# Altium schematic symbol library HW_ADHERENT_SYSCTRL_R1_L3.SchLib: 1629 symbols (part 13 of 31)
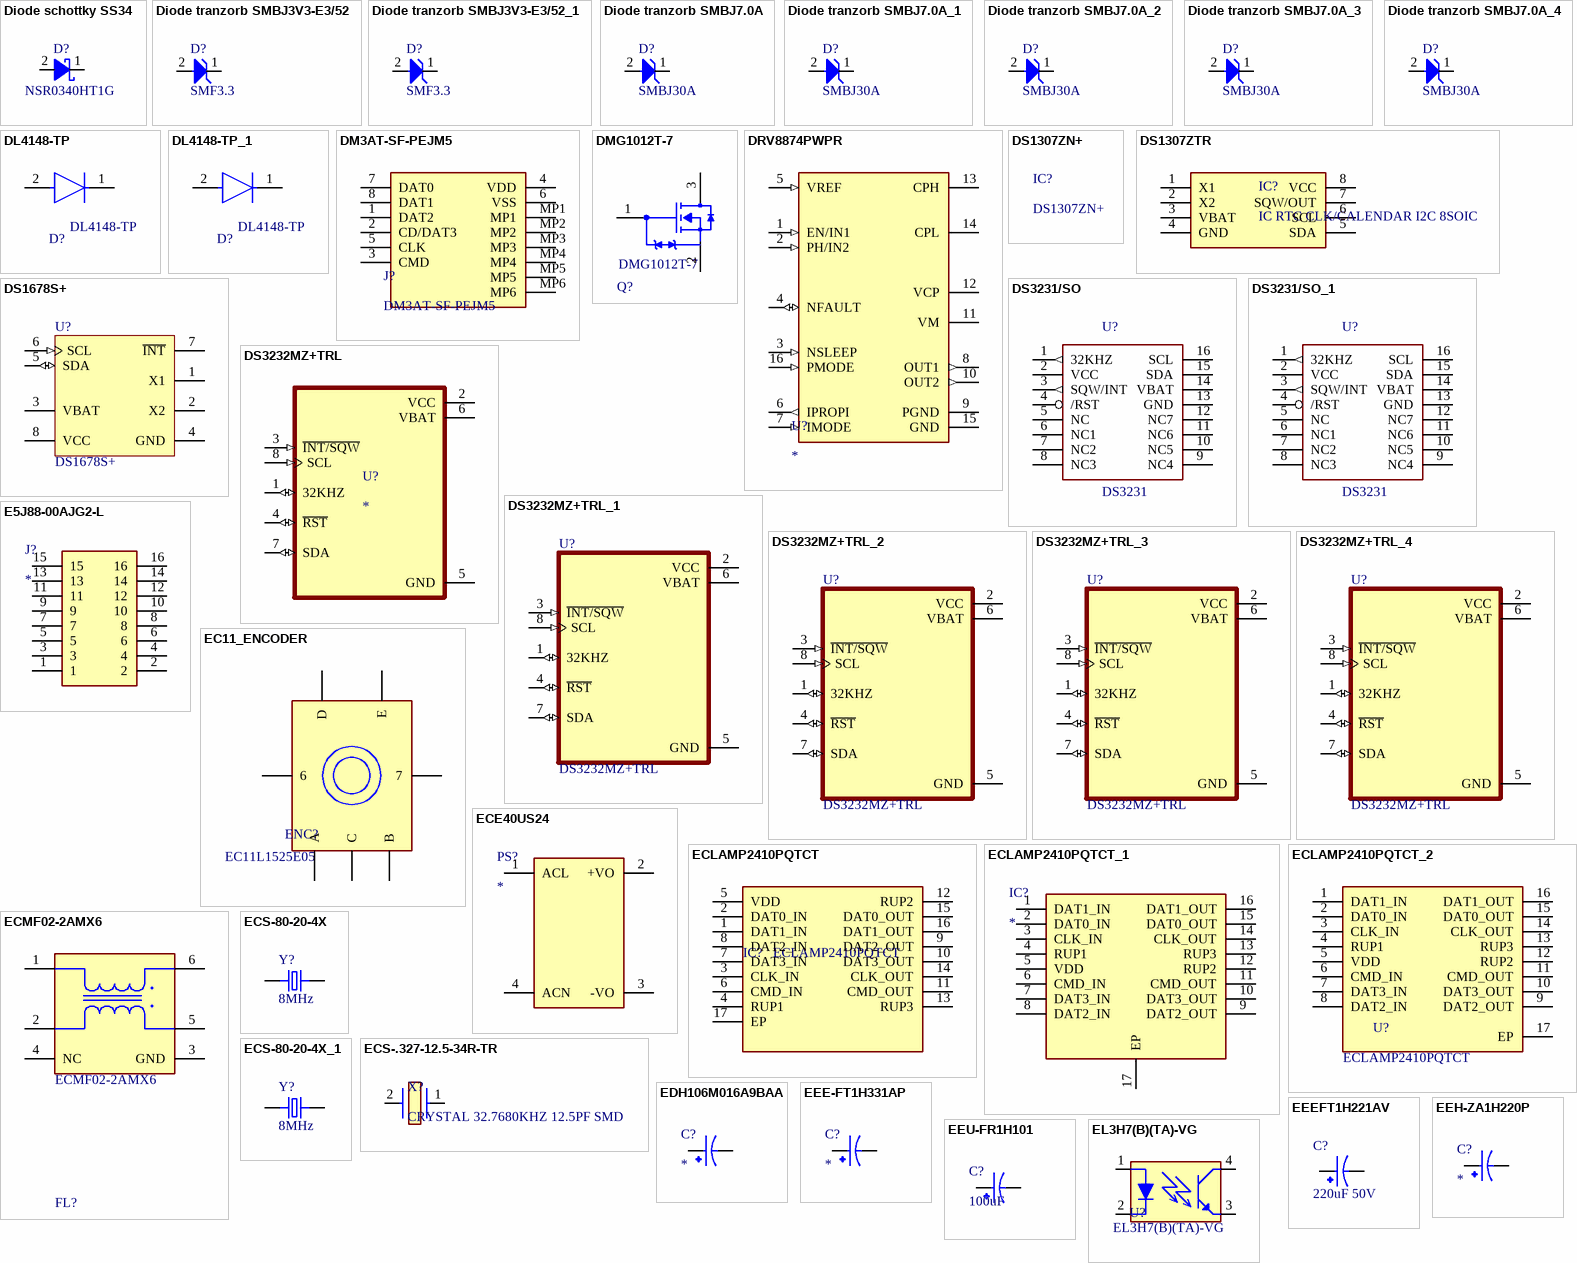
[diagram p63: symbols Diode schottky SS34 to EL3H7(B)(TA)-VG]

## ECS-80-20-4X_1
designator Y?, comment value 8MHz  (hidden comment: CRYSTAL 8.0000MHZ 20PF TH)
8 MHz ±30ppm Crystal 20pF 80 Ohms HC-49/US; Manufacturer Part Number: ECS-80-20-4X; LCSC Manufacturer Part Number: X49SD8MSD2SC; Order Code: Digi: X1094-ND; MF: ECS Inc.; Package: HC49/US ECS International; Digi-Key_Purchase_URL: https://www.digikey.com.tr/product-detail/en/ecs-inc/ECS-80-20-4X/X1094-ND/827585?utm_source=snapeda&utm_medium=aggregator&utm_campaign=symbol; SnapEDA_Link: https://www.snapeda.com/parts/ECS-80-20-4X/ECS%20Inc./view-part/558958/?ref=snap; LCSC Part Number: C21263
footprint XTAL_ECS-80-20-4X
pins: 1, 2

## ECS-.327-12.5-34R-TR
designator X?, comment CRYSTAL 32.7680KHZ 12.5PF SMD
Crystal 0.032768MHz ±20ppm (Tol) 12.5pF Flexural 50000Ohm 2-Pin Mini-CSMD T/R
footprint ECS32712534RRTR
pins: 1 OUT/IN, 2 OUT/IN

## EDH106M016A9BAA
designator C?
10 µF 16 V Aluminum Electrolytic Capacitors Radial, Can - SMD 2000 Hrs @ 105°C; MPN: EDH106M016A9BAA; Manufacturer: KEMET
footprint CAPAE430X565N/K
pins: 1, 2

## EEE-FT1H331AP
designator C?
330 µF 50 V Aluminum Electrolytic Capacitors Radial, Can - SMD 120mOhm @ 100kHz 2000 Hrs @ 105°C; MPN: EEE-FT1H331AP; Manufacturer: Panasonic Industry
footprint CAP_EEEFT1H331AP
pins: 1, 2

## EEEFT1H221AV
designator C?, comment 220uF 50V
220 µF 50 V Aluminum Electrolytic Capacitors Radial, Can - SMD 180mOhm @ 100kHz 2000 Hrs @ 105°C; Manufacturer Part Number: EEE-FT1H221AV; MF: Panasonic Electronic Components; Package: RADIAL-2 Panasonic; Price: None; Availability: In Stock; Value: *; Check_prices: https://www.snapeda.com/parts/EEE-FT1H221AV/Panasonic/view-part/5517810/?ref=eda; SnapEDA_Link: https://www.snapeda.com/parts/EEE-FT1H221AV/Panasonic/view-part/5517810/?ref=snap
footprint CAP_EEEFT1H221AV
pins: 1, 2

## EEH-ZA1H220P
designator C?
22 µF 50 V Aluminum - Polymer Capacitors Radial, Can - SMD 80mOhm 10000 Hrs @ 105°C; MPN: EEH-ZA1H220P; Manufacturer: Panasonic Industry
footprint CAP_EEHZA1H220P
pins: 1, 2

## EEU-FR1H101
designator C?, comment 100uF
100 µF 50 V Aluminum Electrolytic Capacitors Radial, Can 6000 Hrs @ 105°C; Manufacturer Part Number: EEU-FR1H101; Supplier: P14454-ND
footprint CAPPRD350W60D800H1150
pins: N, P

## EL3H7(B)(TA)-VG
designator U?, comment Manufacturer Part Number: EL3H7(B)(TA)-VG  (hidden comment: OPTOISOLATOR 3.75KV TRANS 4-SSOP)
Optoisolator Transistor Output 3750Vrms 1 Channel 4-SSOP; Order Code: DIGI: 1080-1197-2-ND
footprint Everlight_EL3H7_B_TA_-VG_0
pins: 1 A, 2 C, 3 E, 4 C

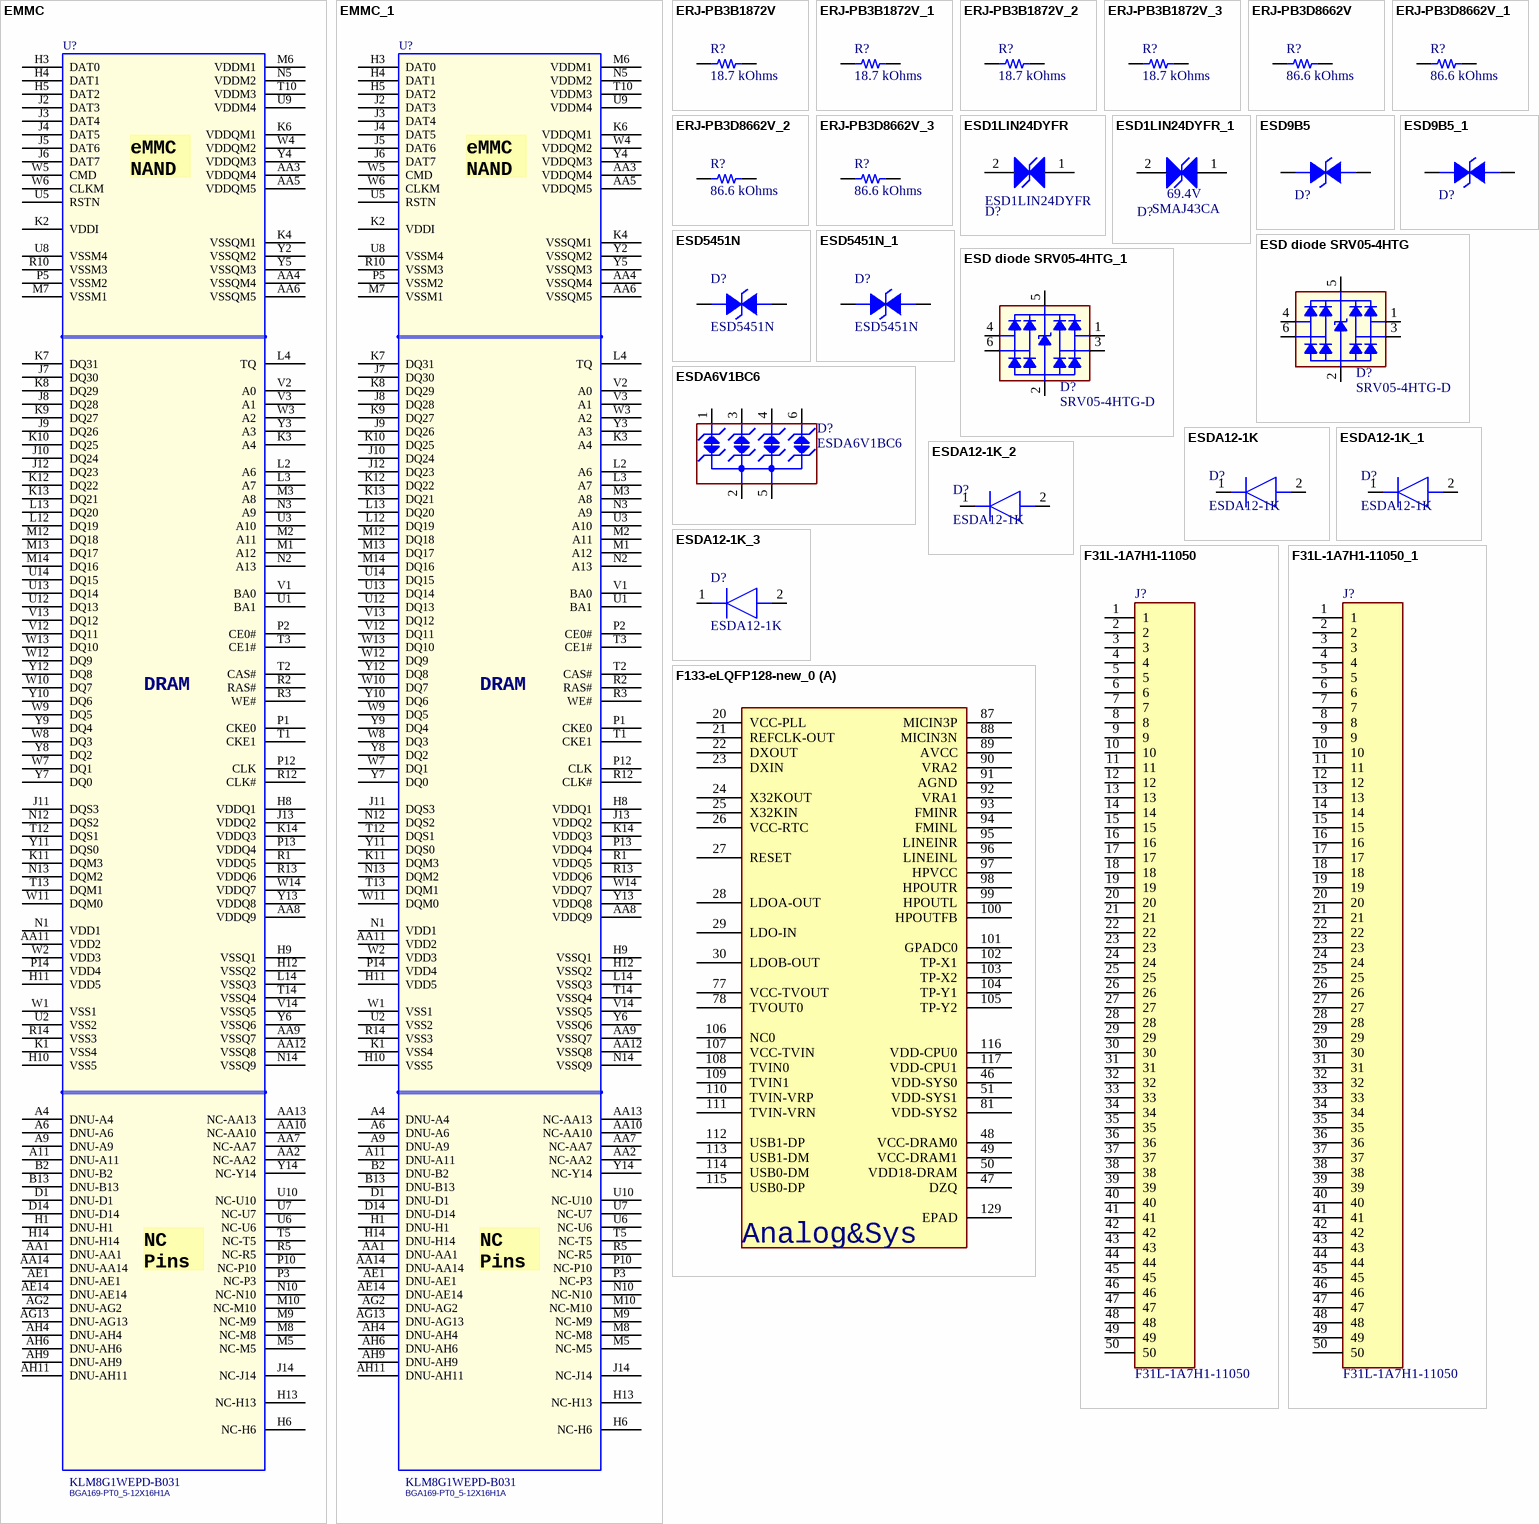
[diagram p21: symbols EMMC to F133-eLQFP128-new_0]

## EMMC
designator U?, comment KLM8G1WEPD-B031  PCB Footprint: BGA169-PT0_5-12X16H1A
Manufacturer Part Number: KLM8G1WEPD-B031
footprint MCP-BGA169
footprint BGA169-PT0_5-12X16H1A
pins: A4 DNU-A4, A6 DNU-A6, A9 DNU-A9, A11 DNU-A11, AA1 DNU-AA1, AA2 NC-AA2, AA3 VDDQM4, AA4 VSSQM4, AA5 VDDQM5, AA6 VSSQM5, AA7 NC-AA7, AA8 VDDQ9, AA9 VSSQ7, AA10 NC-AA10, AA11 VDD2, AA12 VSSQ8, AA13 NC-AA13, AA14 DNU-AA14, AE1 DNU-AE1, AE14 DNU-AE14, AG2 DNU-AG2, AG13 DNU-AG13, AH4 DNU-AH4, AH6 DNU-AH6, AH9 DNU-AH9, AH11 DNU-AH11, B2 DNU-B2, B13 DNU-B13, D1 DNU-D1, D14 DNU-D14, H1 DNU-H1, H3 DAT0, H4 DAT1, H5 DAT2, H6 NC-H6, H8 VDDQ1, H9 VSSQ1, H10 VSS5, H11 VDD5, H12 VSSQ2, H13 NC-H13, H14 DNU-H14, J2 DAT3, J3 DAT4, J4 DAT5, J5 DAT6, J6 DAT7, J7 DQ30, J8 DQ28, J9 DQ26, J10 DQ24, J11 DQS3, J12 DQ23, J13 VDDQ2, J14 NC-J14, K1 VSS4, K2 VDDI, K3 A4, K4 VSSQM1, K6 VDDQM1, K7 DQ31, K8 DQ29, K9 DQ27, K10 DQ25, K11 DQM3, K12 DQ22, K13 DQ21, K14 VDDQ3, L2 A6, L3 A7, L4 TQ, L12 DQ19, L13 DQ20, L14 VSSQ3, M1 A12, M2 A11, M3 A8, M5 NC-M5, M6 VDDM1, M7 VSSM1, M8 NC-M8, M9 NC-M9, M10 NC-M10, M12 DQ18, M13 DQ17, M14 DQ16, N1 VDD1, N2 A13, N3 A9, N5 VDDM2, N10 NC-N10, N12 DQS2, N13 DQM2, N14 VSSQ9, P1 CKE0, P2 CE0#, P3 NC-P3, P5 VSSM2, P10 NC-P10, P12 CLK, P13 VDDQ4, P14 VDD4, R1 VDDQ5, R2 RAS#, R3 WE#, R5 NC-R5, R10 VSSM3, R12 CLK#, R13 VDDQ6, R14 VSS3, T1 CKE1, T2 CAS#, T3 CE1#, T5 NC-T5, T10 VDDM3, T12 DQS1, T13 DQM1, T14 VSSQ4, U1 BA1, U2 VSS2, U3 A10, U5 RSTN, U6 NC-U6, U7 NC-U7, U8 VSSM4, U9 VDDM4, U10 NC-U10, U12 DQ13, U13 DQ14, U14 DQ15, V1 BA0, V2 A0, V3 A1, V12 DQ11, V13 DQ12, V14 VSSQ5, W1 VSS1, W2 VDD3, W3 A2, W4 VDDQM2, W5 CMD, W6 CLKM, W7 DQ1, W8 DQ3, W9 DQ5, W10 DQ7, W11 DQM0, W12 DQ9, W13 DQ10, W14 VDDQ7, Y2 VSSQM2, Y3 A3, Y4 VDDQM3, Y5 VSSQM3, Y6 VSSQ6, Y7 DQ0, Y8 DQ2, Y9 DQ4, Y10 DQ6, Y11 DQS0, Y12 DQ8, Y13 VDDQ8, Y14 NC-Y14
text: eMMC / NAND; DRAM; NC / Pins

## EMMC_1
designator U?, comment KLM8G1WEPD-B031  PCB Footprint: BGA169-PT0_5-12X16H1A
Manufacturer Part Number: KLM8G1WEPD-B031
footprint MCP-BGA169
footprint BGA169-PT0_5-12X16H1A
pins: A4 DNU-A4, A6 DNU-A6, A9 DNU-A9, A11 DNU-A11, AA1 DNU-AA1, AA2 NC-AA2, AA3 VDDQM4, AA4 VSSQM4, AA5 VDDQM5, AA6 VSSQM5, AA7 NC-AA7, AA8 VDDQ9, AA9 VSSQ7, AA10 NC-AA10, AA11 VDD2, AA12 VSSQ8, AA13 NC-AA13, AA14 DNU-AA14, AE1 DNU-AE1, AE14 DNU-AE14, AG2 DNU-AG2, AG13 DNU-AG13, AH4 DNU-AH4, AH6 DNU-AH6, AH9 DNU-AH9, AH11 DNU-AH11, B2 DNU-B2, B13 DNU-B13, D1 DNU-D1, D14 DNU-D14, H1 DNU-H1, H3 DAT0, H4 DAT1, H5 DAT2, H6 NC-H6, H8 VDDQ1, H9 VSSQ1, H10 VSS5, H11 VDD5, H12 VSSQ2, H13 NC-H13, H14 DNU-H14, J2 DAT3, J3 DAT4, J4 DAT5, J5 DAT6, J6 DAT7, J7 DQ30, J8 DQ28, J9 DQ26, J10 DQ24, J11 DQS3, J12 DQ23, J13 VDDQ2, J14 NC-J14, K1 VSS4, K2 VDDI, K3 A4, K4 VSSQM1, K6 VDDQM1, K7 DQ31, K8 DQ29, K9 DQ27, K10 DQ25, K11 DQM3, K12 DQ22, K13 DQ21, K14 VDDQ3, L2 A6, L3 A7, L4 TQ, L12 DQ19, L13 DQ20, L14 VSSQ3, M1 A12, M2 A11, M3 A8, M5 NC-M5, M6 VDDM1, M7 VSSM1, M8 NC-M8, M9 NC-M9, M10 NC-M10, M12 DQ18, M13 DQ17, M14 DQ16, N1 VDD1, N2 A13, N3 A9, N5 VDDM2, N10 NC-N10, N12 DQS2, N13 DQM2, N14 VSSQ9, P1 CKE0, P2 CE0#, P3 NC-P3, P5 VSSM2, P10 NC-P10, P12 CLK, P13 VDDQ4, P14 VDD4, R1 VDDQ5, R2 RAS#, R3 WE#, R5 NC-R5, R10 VSSM3, R12 CLK#, R13 VDDQ6, R14 VSS3, T1 CKE1, T2 CAS#, T3 CE1#, T5 NC-T5, T10 VDDM3, T12 DQS1, T13 DQM1, T14 VSSQ4, U1 BA1, U2 VSS2, U3 A10, U5 RSTN, U6 NC-U6, U7 NC-U7, U8 VSSM4, U9 VDDM4, U10 NC-U10, U12 DQ13, U13 DQ14, U14 DQ15, V1 BA0, V2 A0, V3 A1, V12 DQ11, V13 DQ12, V14 VSSQ5, W1 VSS1, W2 VDD3, W3 A2, W4 VDDQM2, W5 CMD, W6 CLKM, W7 DQ1, W8 DQ3, W9 DQ5, W10 DQ7, W11 DQM0, W12 DQ9, W13 DQ10, W14 VDDQ7, Y2 VSSQM2, Y3 A3, Y4 VDDQM3, Y5 VSSQM3, Y6 VSSQ6, Y7 DQ0, Y8 DQ2, Y9 DQ4, Y10 DQ6, Y11 DQS0, Y12 DQ8, Y13 VDDQ8, Y14 NC-Y14
text: eMMC / NAND; DRAM; NC / Pins

## ERJ-PB3B1872V
designator R?, comment 18.7 kOhms
RES SMD 18.7K OHM 0.1% 1/5W 0603; Part Number: ERJ-PB3B1872V; Manufacturer: Panasonic Electronic Components; Power (Watts): 0.2W, 1/5W; Temperature Coefficient: ±50ppm/°C; ComponentLink1Description: Datasheet; ComponentLink1URL: https://industrial.panasonic.com/cdbs/www-data/pdf/RDM0000/AOA0000C328.pdf; ComponentLink2Description: DigiKey Link; ComponentLink2URL: https://www.digikey.com/en/products/detail/panasonic-electronic-components/ERJ-PB3B1872V/6212898; Composition: Thick Film; Device Package: 0603 (1608 Metric); Features: Automotive AEC-Q200, Pulse Withstanding; Height - Seated (Max): 0.022" (0.55mm); LastUpdated: 2/9/2024 8:43:19 PM; Lifecycle Status: Active; Minimum Order: 1; Number of Terminations: 2; Operating Temperature: -55°C ~ 155°C; Package / Case: 0603 (1608 Metric); Packaging: TapeAndReel; PartId: 9213; Part Status: Active; Price: 0.02; Ratings: AEC-Q200; Resistance: 18.7 kOhms; Series: ERJ-PB3; Size / Dimension: 0.063" L x 0.031" W (1.60mm x 0.80mm); Supplier 1: DigiKey; Supplier Part Number 1: P20115CT-ND; Supplier Device Package: 0603; Tolerance: ±0.1%; Value: 18.7 kOhms
footprint RES 0603_1608
pins: 1, 2

## ERJ-PB3B1872V_1
designator R?, comment 18.7 kOhms
RES SMD 18.7K OHM 0.1% 1/5W 0603; Part Number: ERJ-PB3B1872V; Manufacturer: Panasonic Electronic Components; Power (Watts): 0.2W, 1/5W; Temperature Coefficient: ±50ppm/°C; ComponentLink1Description: Datasheet; ComponentLink1URL: https://industrial.panasonic.com/cdbs/www-data/pdf/RDM0000/AOA0000C328.pdf; ComponentLink2Description: DigiKey Link; ComponentLink2URL: https://www.digikey.com/en/products/detail/panasonic-electronic-components/ERJ-PB3B1872V/6212898; Composition: Thick Film; Device Package: 0603 (1608 Metric); Features: Automotive AEC-Q200, Pulse Withstanding; Height - Seated (Max): 0.022" (0.55mm); LastUpdated: 2/9/2024 8:43:19 PM; Lifecycle Status: Active; Minimum Order: 1; Number of Terminations: 2; Operating Temperature: -55°C ~ 155°C; Package / Case: 0603 (1608 Metric); Packaging: TapeAndReel; PartId: 9213; Part Status: Active; Price: 0.02; Ratings: AEC-Q200; Resistance: 18.7 kOhms; Series: ERJ-PB3; Size / Dimension: 0.063" L x 0.031" W (1.60mm x 0.80mm); Supplier 1: DigiKey; Supplier Part Number 1: P20115CT-ND; Supplier Device Package: 0603; Tolerance: ±0.1%; Value: 18.7 kOhms
footprint RES 0603_1608
pins: 1, 2

## ERJ-PB3B1872V_2
designator R?, comment 18.7 kOhms
RES SMD 18.7K OHM 0.1% 1/5W 0603; Part Number: ERJ-PB3B1872V; Manufacturer: Panasonic Electronic Components; Power (Watts): 0.2W, 1/5W; Temperature Coefficient: ±50ppm/°C; ComponentLink1Description: Datasheet; ComponentLink1URL: https://industrial.panasonic.com/cdbs/www-data/pdf/RDM0000/AOA0000C328.pdf; ComponentLink2Description: DigiKey Link; ComponentLink2URL: https://www.digikey.com/en/products/detail/panasonic-electronic-components/ERJ-PB3B1872V/6212898; Composition: Thick Film; Device Package: 0603 (1608 Metric); Features: Automotive AEC-Q200, Pulse Withstanding; Height - Seated (Max): 0.022" (0.55mm); LastUpdated: 2/9/2024 8:43:19 PM; Lifecycle Status: Active; Minimum Order: 1; Number of Terminations: 2; Operating Temperature: -55°C ~ 155°C; Package / Case: 0603 (1608 Metric); Packaging: TapeAndReel; PartId: 9213; Part Status: Active; Price: 0.02; Ratings: AEC-Q200; Resistance: 18.7 kOhms; Series: ERJ-PB3; Size / Dimension: 0.063" L x 0.031" W (1.60mm x 0.80mm); Supplier 1: DigiKey; Supplier Part Number 1: P20115CT-ND; Supplier Device Package: 0603; Tolerance: ±0.1%; Value: 18.7 kOhms
footprint RES 0603_1608
pins: 1, 2

## ERJ-PB3B1872V_3
designator R?, comment 18.7 kOhms
RES SMD 18.7K OHM 0.1% 1/5W 0603; Part Number: ERJ-PB3B1872V; Manufacturer: Panasonic Electronic Components; Power (Watts): 0.2W, 1/5W; Temperature Coefficient: ±50ppm/°C; ComponentLink1Description: Datasheet; ComponentLink1URL: https://industrial.panasonic.com/cdbs/www-data/pdf/RDM0000/AOA0000C328.pdf; ComponentLink2Description: DigiKey Link; ComponentLink2URL: https://www.digikey.com/en/products/detail/panasonic-electronic-components/ERJ-PB3B1872V/6212898; Composition: Thick Film; Device Package: 0603 (1608 Metric); Features: Automotive AEC-Q200, Pulse Withstanding; Height - Seated (Max): 0.022" (0.55mm); LastUpdated: 2/9/2024 8:43:19 PM; Lifecycle Status: Active; Minimum Order: 1; Number of Terminations: 2; Operating Temperature: -55°C ~ 155°C; Package / Case: 0603 (1608 Metric); Packaging: TapeAndReel; PartId: 9213; Part Status: Active; Price: 0.02; Ratings: AEC-Q200; Resistance: 18.7 kOhms; Series: ERJ-PB3; Size / Dimension: 0.063" L x 0.031" W (1.60mm x 0.80mm); Supplier 1: DigiKey; Supplier Part Number 1: P20115CT-ND; Supplier Device Package: 0603; Tolerance: ±0.1%; Value: 18.7 kOhms
footprint RES 0603_1608
pins: 1, 2

## ERJ-PB3D8662V
designator R?, comment 86.6 kOhms
RES SMD 86.6K OHM 0.5% 1/5W 0603; Part Number: ERJ-PB3D8662V; Manufacturer: Panasonic Electronic Components; Power (Watts): 0.2W, 1/5W; Temperature Coefficient: ±50ppm/°C; ComponentLink1Description: Datasheet; ComponentLink1URL: https://industrial.panasonic.com/cdbs/www-data/pdf/RDM0000/AOA0000C328.pdf; ComponentLink2Description: DigiKey Link; ComponentLink2URL: https://www.digikey.com/en/products/detail/panasonic-electronic-components/ERJ-PB3D8662V/6213287; Composition: Thick Film; Device Package: 0603 (1608 Metric); Features: Automotive AEC-Q200, Pulse Withstanding; Height - Seated (Max): 0.022" (0.55mm); LastUpdated: 2/9/2024 8:43:36 PM; Lifecycle Status: Active; Minimum Order: 1; Number of Terminations: 2; Operating Temperature: -55°C ~ 155°C; Package / Case: 0603 (1608 Metric); Packaging: TapeAndReel; PartId: 5080; Part Status: Active; Price: 0.02; Ratings: AEC-Q200; Resistance: 86.6 kOhms; Series: ERJ-PB3; Size / Dimension: 0.063" L x 0.031" W (1.60mm x 0.80mm); Supplier 1: DigiKey; Supplier Part Number 1: P20504CT-ND; Supplier Device Package: 0603; Tolerance: ±0.5%; Value: 86.6 kOhms
footprint RES 0603_1608
pins: 1, 2

## ERJ-PB3D8662V_1
designator R?, comment 86.6 kOhms
RES SMD 86.6K OHM 0.5% 1/5W 0603; Part Number: ERJ-PB3D8662V; Manufacturer: Panasonic Electronic Components; Power (Watts): 0.2W, 1/5W; Temperature Coefficient: ±50ppm/°C; Value: 86.6 kOhms; ComponentLink1Description: Datasheet; ComponentLink1URL: https://industrial.panasonic.com/cdbs/www-data/pdf/RDM0000/AOA0000C328.pdf; ComponentLink2Description: DigiKey Link; ComponentLink2URL: https://www.digikey.com/en/products/detail/panasonic-electronic-components/ERJ-PB3D8662V/6213287; Composition: Thick Film; Device Package: 0603 (1608 Metric); Features: Automotive AEC-Q200, Pulse Withstanding; Height - Seated (Max): 0.022" (0.55mm); LastUpdated: 2/9/2024 8:43:36 PM; Lifecycle Status: Active; Minimum Order: 1; Number of Terminations: 2; Operating Temperature: -55°C ~ 155°C; Package / Case: 0603 (1608 Metric); Packaging: TapeAndReel; PartId: 5080; Part Status: Active; Price: 0.02; Ratings: AEC-Q200; Resistance: 86.6 kOhms; Series: ERJ-PB3; Size / Dimension: 0.063" L x 0.031" W (1.60mm x 0.80mm); Supplier 1: DigiKey; Supplier Part Number 1: P20504CT-ND; Supplier Device Package: 0603; Tolerance: ±0.5%
footprint RES 0603_1608
pins: 1, 2

## ERJ-PB3D8662V_2
designator R?, comment 86.6 kOhms
RES SMD 86.6K OHM 0.5% 1/5W 0603; Part Number: ERJ-PB3D8662V; Manufacturer: Panasonic Electronic Components; Power (Watts): 0.2W, 1/5W; Temperature Coefficient: ±50ppm/°C; ComponentLink1Description: Datasheet; ComponentLink1URL: https://industrial.panasonic.com/cdbs/www-data/pdf/RDM0000/AOA0000C328.pdf; ComponentLink2Description: DigiKey Link; ComponentLink2URL: https://www.digikey.com/en/products/detail/panasonic-electronic-components/ERJ-PB3D8662V/6213287; Composition: Thick Film; Device Package: 0603 (1608 Metric); Features: Automotive AEC-Q200, Pulse Withstanding; Height - Seated (Max): 0.022" (0.55mm); LastUpdated: 2/9/2024 8:43:36 PM; Lifecycle Status: Active; Minimum Order: 1; Number of Terminations: 2; Operating Temperature: -55°C ~ 155°C; Package / Case: 0603 (1608 Metric); Packaging: TapeAndReel; PartId: 5080; Part Status: Active; Price: 0.02; Ratings: AEC-Q200; Resistance: 86.6 kOhms; Series: ERJ-PB3; Size / Dimension: 0.063" L x 0.031" W (1.60mm x 0.80mm); Supplier 1: DigiKey; Supplier Part Number 1: P20504CT-ND; Supplier Device Package: 0603; Tolerance: ±0.5%; Value: 86.6 kOhms
footprint RES 0603_1608
pins: 1, 2

## ERJ-PB3D8662V_3
designator R?, comment 86.6 kOhms
RES SMD 86.6K OHM 0.5% 1/5W 0603; Part Number: ERJ-PB3D8662V; Manufacturer: Panasonic Electronic Components; Power (Watts): 0.2W, 1/5W; Temperature Coefficient: ±50ppm/°C; ComponentLink1Description: Datasheet; ComponentLink1URL: https://industrial.panasonic.com/cdbs/www-data/pdf/RDM0000/AOA0000C328.pdf; ComponentLink2Description: DigiKey Link; ComponentLink2URL: https://www.digikey.com/en/products/detail/panasonic-electronic-components/ERJ-PB3D8662V/6213287; Composition: Thick Film; Device Package: 0603 (1608 Metric); Features: Automotive AEC-Q200, Pulse Withstanding; Height - Seated (Max): 0.022" (0.55mm); LastUpdated: 2/9/2024 8:43:36 PM; Lifecycle Status: Active; Minimum Order: 1; Number of Terminations: 2; Operating Temperature: -55°C ~ 155°C; Package / Case: 0603 (1608 Metric); Packaging: TapeAndReel; PartId: 5080; Part Status: Active; Price: 0.02; Ratings: AEC-Q200; Resistance: 86.6 kOhms; Series: ERJ-PB3; Size / Dimension: 0.063" L x 0.031" W (1.60mm x 0.80mm); Supplier 1: DigiKey; Supplier Part Number 1: P20504CT-ND; Supplier Device Package: 0603; Tolerance: ±0.5%; Value: 86.6 kOhms
footprint RES 0603_1608
pins: 1, 2

## ESD1LIN24DYFR
designator D?, comment Manufacturer Part Number: ESD1LIN24DYFR  (hidden comment: 3-PF 24-V 30-KV ESD PROTECTION D)
42V Clamp 4.3A (8/20µs) Ipp Tvs Diode Surface Mount SOD-323; Order Code: DIGI: 296-ESD1LIN24DYFRTR-ND
footprint Texas_Instruments_SOD323_IPC_A
footprint Texas_Instruments_SOD323_IPC_B
footprint Texas_Instruments_SOD323_IPC_C
footprint Texas_Instruments_SOD323_MFG
pins: 1 IO, 2 GND

## ESD1LIN24DYFR_1
designator D?, comment Clamp Voltage: 69.4V  Manufacturer Part Number: SMAJ43CA  (hidden comment: TVS DIODE 43VWM 69.4VC DO214AC)
69.4V Clamp 5.8A Ipp Tvs Diode Surface Mount DO-214AC; Order Code: DIGI: 732-SMAJ43CATR-ND
footprint Diodes_SMA_0
pins: 1 IO, 2 GND

## ESD9B5
designator D?, comment TVS DIODE 5VWM SOD923  (value not drawn)
Clamp Ipp Tvs Diode Surface Mount SOD-923; LCSC Manufacturer Part Number: ESD9B5VD; LCSC Part Number: C2835422
footprint On_Semiconductor_514AB-CA_MFG
pins: 1 ANODE, 2 CATHODE

## ESD9B5_1
designator D?, comment TVS DIODE 5VWM SOD923  (value not drawn)
Clamp Ipp Tvs Diode Surface Mount SOD-923; LCSC Manufacturer Part Number: ESD9B5VD; LCSC Part Number: C2835422
footprint On_Semiconductor_514AB-CA_MFG
pins: 1 ANODE, 2 CATHODE

## ESD5451N
designator D?, comment LCSC Manufacturer Part Number: ESD5451N  (hidden comment: DFN1006(SOD-882) ESD Protection Devices ROHS)
Order Code: LCSC: C2936977; LCSC Part Number: C2936977; Manufacturer Part Number: ESD5451N
footprint On_Semiconductor_514AB-CA_MFG
pins: 1 ANODE, 2 CATHODE

## ESD5451N_1
designator D?, comment LCSC Manufacturer Part Number: ESD5451N  (hidden comment: DFN1006(SOD-882) ESD Protection Devices ROHS)
Order Code: LCSC: C2936977; LCSC Part Number: C2936977; Manufacturer Part Number: ESD5451N
footprint On_Semiconductor_514AB-CA_MFG
pins: 1 ANODE, 2 CATHODE

## ESD diode SRV05-4HTG
designator D?, comment SRV05-4HTG-D
TVS DIODE 6VWM 15VC SOT23-6; Manufacturer: Littelfuse Inc.; Value: SRV05-4HTG-D; Manufacturer Part Number: SRV05-4HTG-D; Supplier Part Number: SRV05-4HTG-DCT-ND
footprint SOT23-6 (Footprint not found)
pins: 1 IO1, 2 GND (power), 3 IO2, 4 IO3, 5 VCC (power), 6 IO4

## ESD diode SRV05-4HTG_1
designator D?, comment SRV05-4HTG-D
TVS DIODE 6VWM 15VC SOT23-6; Manufacturer: Littelfuse Inc.; Manufacturer Part Number: SRV05-4HTG-D; Supplier Part Number: SRV05-4HTG-DCT-ND; Value: SRV05-4HTG-D
footprint SOT23-6 (Footprint not found)
pins: 1 IO1, 2 GND (power), 3 IO2, 4 IO3, 5 VCC (power), 6 IO4

## ESDA6V1BC6
designator D?
ESD Suppressor TVS 15KV 6-Pin SOT-23 T/R; Manufacturer: STMicroelectronics; Direction: Bidirectional; Capacitance: 20pF; Reverse Breakdown Voltage: 6.1V; Number of Elements: 4; Operating Supply Voltage: 5V; Peak Pulse Power: 80W; Max Breakdown Voltage: 8V; Leakage Current: 1uA; Test Current: 1mA; Power Line Protection: No; Clamping Voltage: 11.35V; Diode Type: ZENER; ESD Protection: Yes; Supplier 1: Digi-Key; Supplier Part Number 1: 497-6635-1-ND; Manufacturer Part Number: ESDA6V1BC6; RoHS: Yes; Category: Integrated Circuits (ICs); Stock 1: 11313; Pricing 1: 1=0,41000, 10=0,33400, 100=0,22730, 500=0,17044, 1000=0,12784 (USD); Mount: Surface Mount; Case/Package: SOT-23; Number of Pins: 6; Min Operating Temperature: -40°C; Max Operating Temperature: 125°C; Package Quantity: 1; Packaging: Tape and Reel; Reverse Standoff Voltage: 5V; Polarity: Bidirectional; Breakdown Voltage: 6.1V; Termination: SMD/SMT; Max Power Dissipation: 80W; Series: ESDA, TRANSIL™; Number of Channels: 4; Number of Bidirectional Channels: 4; Min Breakdown Voltage: 6.1V; Working Voltage: 5V; Max Reverse Leakage Current: 1uA; Voltage Rating (DC): 6.1V; Resistor Type: Zener; Length: 3.05mm; Width: 1.75mm; Height: 1.45mm; Depth: 1.75mm; Radiation Hardening: No; Lead Free: Lead Free; RoHS Compliant: Yes; REACH SVHC: No SVHC; ComponentLink1URL: https://datasheet.ciiva.com/15143/getdatasheetpartid-148472-15143793.pdf?src-supplier=Verical; ComponentLink1Description: https://datasheet.ciiva.com/15143/getdatasheetpartid-148472-15143793.pdf?src-supplier=Verical; ComponentLink2URL: https://datasheet.ciiva.com/4507/cd00001906-94538-4507893.pdf?src-supplier=Mouser; ComponentLink2Description: https://datasheet.ciiva.com/4507/cd00001906-94538-4507893.pdf?src-supplier=Mouser; ComponentLink3URL: https://datasheet.ciiva.com/14186/esda6v1bc6-st-eng-tds-14186554.pdf?src-supplier=Distrelec; ComponentLink3Description: https://datasheet.ciiva.com/14186/esda6v1bc6-st-eng-tds-14186554.pdf?src-supplier=Distrelec; ComponentLink4URL: https://datasheet.ciiva.com/338/cd00001906-338704.pdf?src-supplier=Digi-Key; ComponentLink4Description: https://datasheet.ciiva.com/338/cd00001906-338704.pdf?src-supplier=Digi-Key; ComponentLink5URL: https://datasheet.ciiva.com/338/cd00001906-338705.pdf?src-supplier=Digi-Key; ComponentLink5Description: https://datasheet.ciiva.com/338/cd00001906-338705.pdf?src-supplier=Digi-Key; ComponentLink6URL: https://datasheet.ciiva.com/11194/cd00001906-11194053.pdf?src-supplier=Avnet; ComponentLink6Description: https://datasheet.ciiva.com/11194/cd00001906-11194053.pdf?src-supplier=Avnet; ComponentLink7URL: https://datasheet.ciiva.com/7662/1671767-7662124.pdf?src-supplier=Element14; ComponentLink7Description: https://datasheet.ciiva.com/7662/1671767-7662124.pdf?src-supplier=Element14
footprint SOT23-6L
footprint uQFN (Footprint not found)
pins: 1 IO1, 2 IO2, 3 GND, 4 IO3, 5 IO4, 6 NC

## ESDA12-1K
designator D?
Manufacturer_Name: STMicroelectronics; Datasheet Link: https://www.st.com/resource/en/datasheet/esda-1k.pdf; Height: 0.7mm; Manufacturer_Part_Number: ESDA12-1K; Mouser Part Number: 511-ESDA12-1K; Mouser Price/Stock: https://www.mouser.co.uk/ProductDetail/STMicroelectronics/ESDA12-1K?qs=raAh8RbVwI6OxdPIyEiuSA%3D%3D; Arrow Part Number: ESDA12-1K; Arrow Price/Stock: https://www.arrow.com/en/products/esda12-1k/stmicroelectronics?region=europe
footprint SODFL1608X70N
pins: 1 K, 2 A

## ESDA12-1K_1
designator D?, comment ESDA12-1K
Manufacturer_Name: STMicroelectronics; Datasheet Link: https://www.st.com/resource/en/datasheet/esda-1k.pdf; Height: 0.7mm; Manufacturer_Part_Number: ESDA12-1K; Mouser Part Number: 511-ESDA12-1K; Mouser Price/Stock: https://www.mouser.co.uk/ProductDetail/STMicroelectronics/ESDA12-1K?qs=raAh8RbVwI6OxdPIyEiuSA%3D%3D; Arrow Part Number: ESDA12-1K; Arrow Price/Stock: https://www.arrow.com/en/products/esda12-1k/stmicroelectronics?region=europe
footprint SODFL1608X70N
pins: 1 K, 2 A

## ESDA12-1K_2
designator D?, comment ESDA12-1K
Manufacturer_Name: STMicroelectronics; Datasheet Link: https://www.st.com/resource/en/datasheet/esda-1k.pdf; Height: 0.7mm; Manufacturer_Part_Number: ESDA12-1K; Mouser Part Number: 511-ESDA12-1K; Mouser Price/Stock: https://www.mouser.co.uk/ProductDetail/STMicroelectronics/ESDA12-1K?qs=raAh8RbVwI6OxdPIyEiuSA%3D%3D; Arrow Part Number: ESDA12-1K; Arrow Price/Stock: https://www.arrow.com/en/products/esda12-1k/stmicroelectronics?region=europe
footprint SODFL1608X70N
pins: 1 K, 2 A

## ESDA12-1K_3
designator D?, comment ESDA12-1K
Manufacturer_Name: STMicroelectronics; Datasheet Link: https://www.st.com/resource/en/datasheet/esda-1k.pdf; Height: 0.7mm; Manufacturer_Part_Number: ESDA12-1K; Mouser Part Number: 511-ESDA12-1K; Mouser Price/Stock: https://www.mouser.co.uk/ProductDetail/STMicroelectronics/ESDA12-1K?qs=raAh8RbVwI6OxdPIyEiuSA%3D%3D; Arrow Part Number: ESDA12-1K; Arrow Price/Stock: https://www.arrow.com/en/products/esda12-1k/stmicroelectronics?region=europe
footprint SODFL1608X70N
pins: 1 K, 2 A

## F31L-1A7H1-11050
designator J?
MF: Amphenol ICC (FCI); Package: None; Price: None; Value: *; MP: F31L-1A7H1-11050; Availability: Unavailable
footprint AMPHENOL_F31L-1A7H1-11050
pins: 1, 2, 3, 4, 5, 6, 7, 8, 9, 10, 11, 12, 13, 14, 15, 16, 17, 18, 19, 20, 21, 22, 23, 24, 25, 26, 27, 28, 29, 30, 31, 32, 33, 34, 35, 36, 37, 38, 39, 40, 41, 42, 43, 44, 45, 46, 47, 48, 49, 50

## F31L-1A7H1-11050_1
designator J?, comment F31L-1A7H1-11050
MF: Amphenol ICC (FCI); Package: None; Price: None; Value: *; MP: F31L-1A7H1-11050; Availability: Unavailable
footprint AMPHENOL_F31L-1A7H1-11050
pins: 1, 2, 3, 4, 5, 6, 7, 8, 9, 10, 11, 12, 13, 14, 15, 16, 17, 18, 19, 20, 21, 22, 23, 24, 25, 26, 27, 28, 29, 30, 31, 32, 33, 34, 35, 36, 37, 38, 39, 40, 41, 42, 43, 44, 45, 46, 47, 48, 49, 50

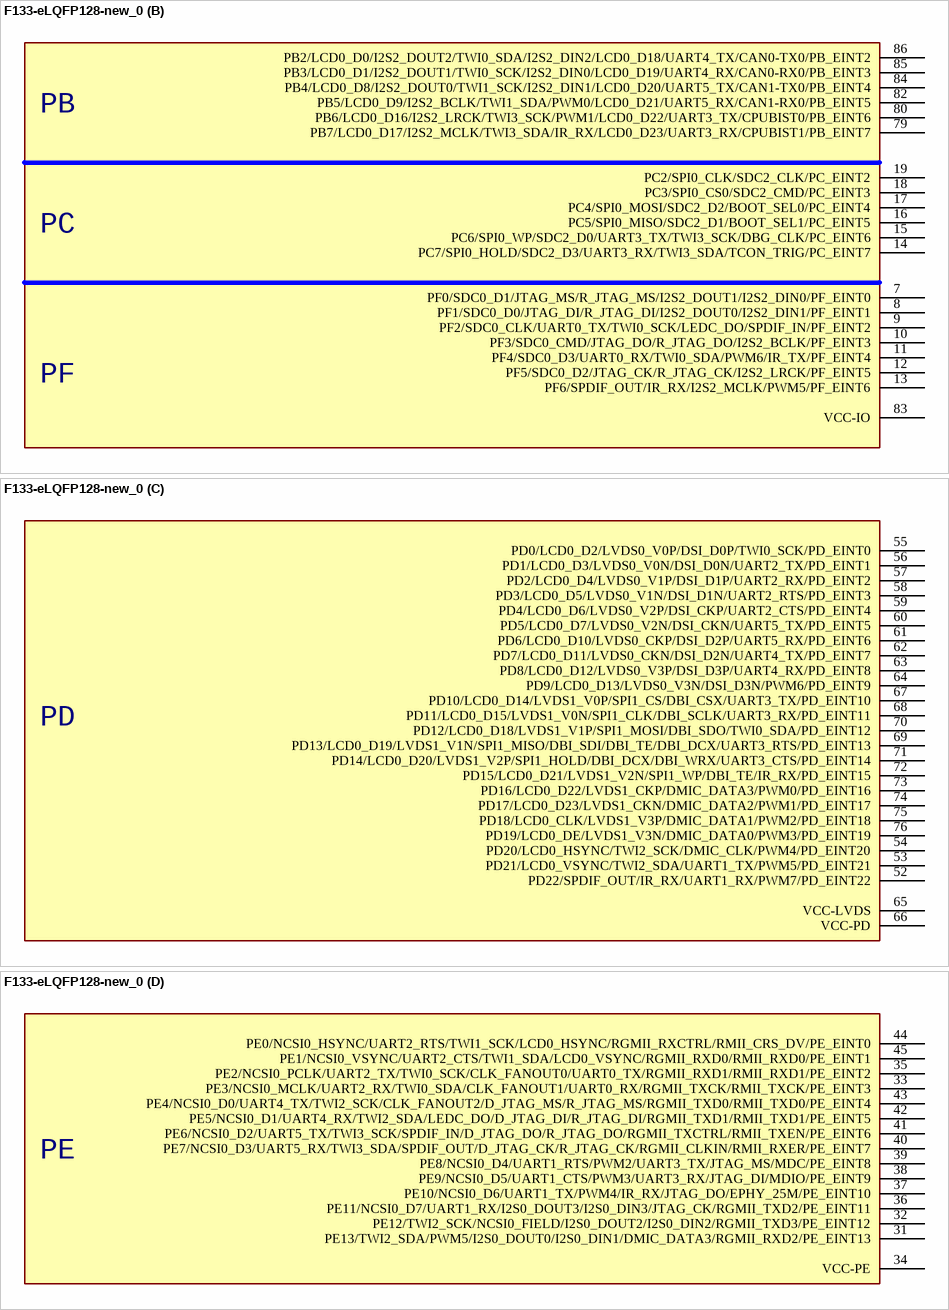
[diagram p22: symbol F133-eLQFP128-new_0]

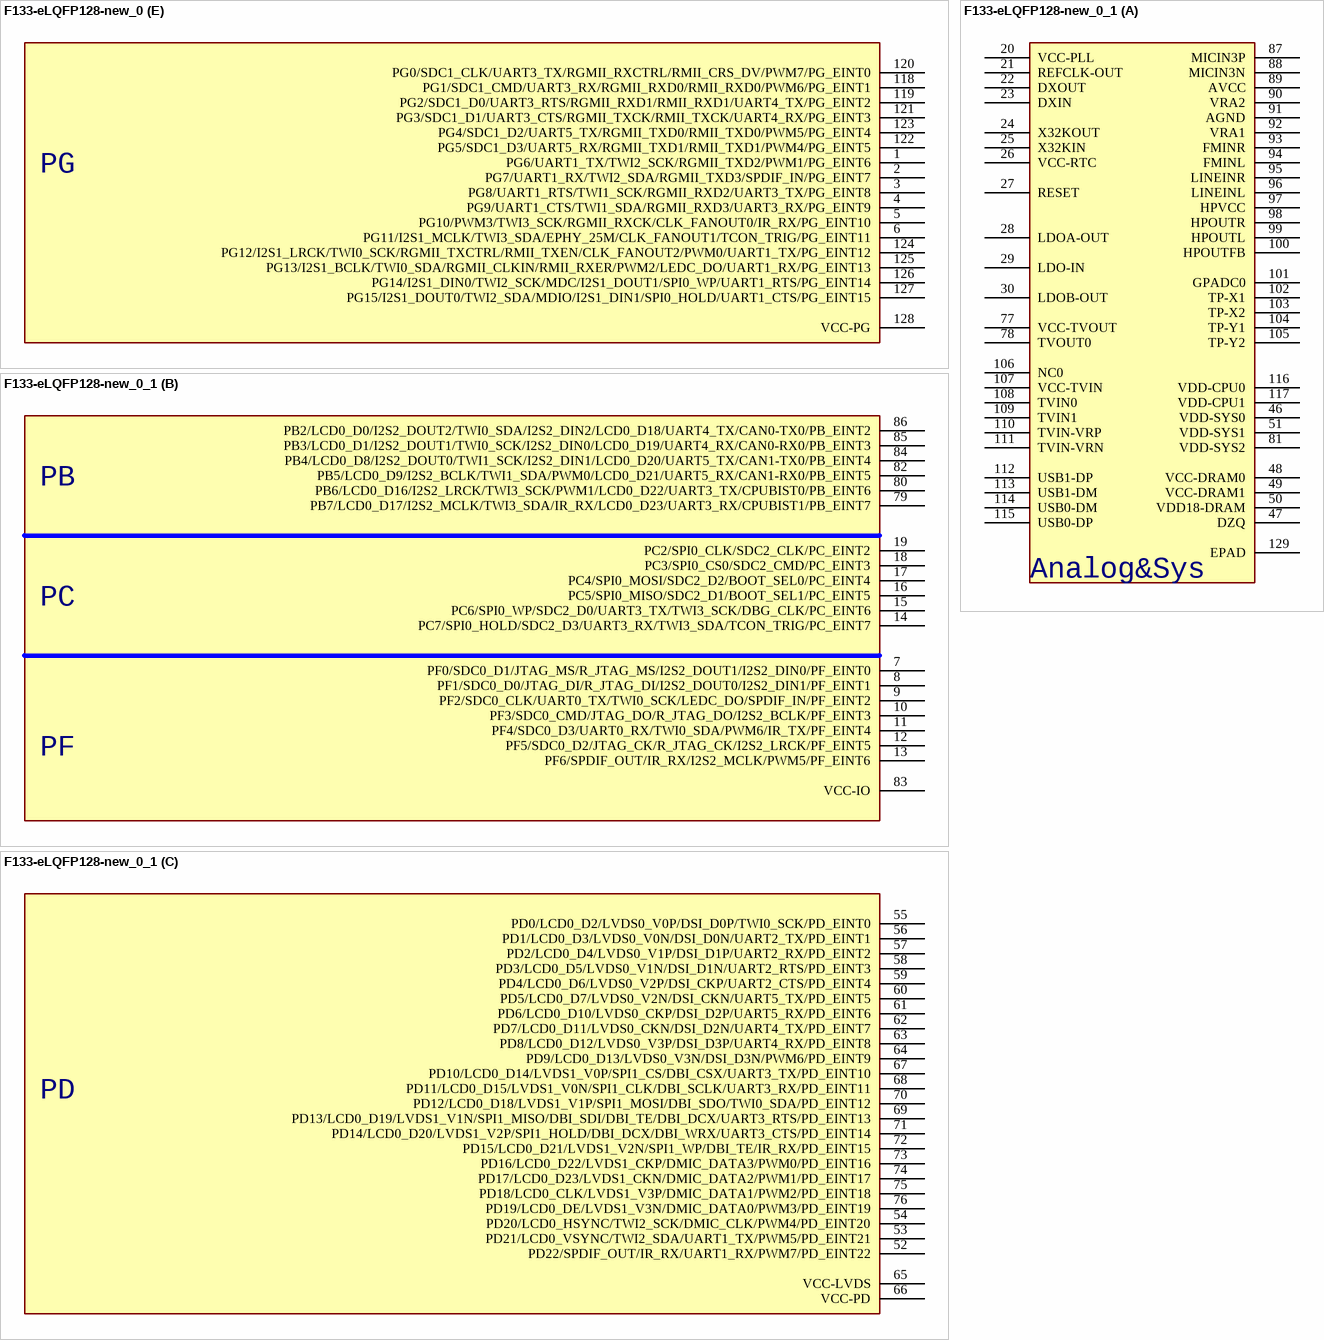
[diagram p23: symbols F133-eLQFP128-new_0 to F133-eLQFP128-new_0_1]

## F133-eLQFP128-new_0
designator U?  (value not drawn)
Manufacturer Part Number: T113-S3; SWAP_INFO: (S1+S2+S3+S4+S5); SPLIT_INST: TRUE; Altium-Right: 150; Altium-Bottom: 360; Altium-Right1: 570; Altium-Bottom1: 270; Altium-Bottom2: 280; Altium-Bottom3: 180; Altium-Bottom4: 200; Altium-Right2: 570; Altium-Right3: 570; Altium-Right4: 570
footprint QFP129P40B1600_1600H160
part A pins: 20 VCC-PLL, 21 REFCLK-OUT, 22 DXOUT, 23 DXIN, 24 X32KOUT, 25 X32KIN, 26 VCC-RTC, 27 RESET, 28 LDOA-OUT, 29 LDO-IN, 30 LDOB-OUT, 46 VDD-SYS0, 47 DZQ, 48 VCC-DRAM0, 49 VCC-DRAM1, 50 VDD18-DRAM, 51 VDD-SYS1, 77 VCC-TVOUT, 78 TVOUT0, 81 VDD-SYS2, 87 MICIN3P, 88 MICIN3N, 89 AVCC, 90 VRA2, 91 AGND, 92 VRA1, 93 FMINR, 94 FMINL, 95 LINEINR, 96 LINEINL, 97 HPVCC, 98 HPOUTR, 99 HPOUTL, 100 HPOUTFB, 101 GPADC0, 102 TP-X1, 103 TP-X2, 104 TP-Y1, 105 TP-Y2, 106 NC0, 107 VCC-TVIN, 108 TVIN0, 109 TVIN1, 110 TVIN-VRP, 111 TVIN-VRN, 112 USB1-DP, 113 USB1-DM, 114 USB0-DM, 115 USB0-DP, 116 VDD-CPU0, 117 VDD-CPU1, 129 EPAD
part B pins: 7 PF0/SDC0_D1/JTAG_MS/R_JTAG_MS/I2S2_DOUT1/I2S2_DIN0/PF_EINT0, 8 PF1/SDC0_D0/JTAG_DI/R_JTAG_DI/I2S2_DOUT0/I2S2_DIN1/PF_EINT1, 9 PF2/SDC0_CLK/UART0_TX/TWI0_SCK/LEDC_DO/SPDIF_IN/PF_EINT2, 10 PF3/SDC0_CMD/JTAG_DO/R_JTAG_DO/I2S2_BCLK/PF_EINT3, 11 PF4/SDC0_D3/UART0_RX/TWI0_SDA/PWM6/IR_TX/PF_EINT4, 12 PF5/SDC0_D2/JTAG_CK/R_JTAG_CK/I2S2_LRCK/PF_EINT5, 13 PF6/SPDIF_OUT/IR_RX/I2S2_MCLK/PWM5/PF_EINT6, 14 PC7/SPI0_HOLD/SDC2_D3/UART3_RX/TWI3_SDA/TCON_TRIG/PC_EINT7, 15 PC6/SPI0_WP/SDC2_D0/UART3_TX/TWI3_SCK/DBG_CLK/PC_EINT6, 16 PC5/SPI0_MISO/SDC2_D1/BOOT_SEL1/PC_EINT5, 17 PC4/SPI0_MOSI/SDC2_D2/BOOT_SEL0/PC_EINT4, 18 PC3/SPI0_CS0/SDC2_CMD/PC_EINT3, 19 PC2/SPI0_CLK/SDC2_CLK/PC_EINT2, 79 PB7/LCD0_D17/I2S2_MCLK/TWI3_SDA/IR_RX/LCD0_D23/UART3_RX/CPUBIST1/PB_EINT7, 80 PB6/LCD0_D16/I2S2_LRCK/TWI3_SCK/PWM1/LCD0_D22/UART3_TX/CPUBIST0/PB_EINT6, 82 PB5/LCD0_D9/I2S2_BCLK/TWI1_SDA/PWM0/LCD0_D21/UART5_RX/CAN1-RX0/PB_EINT5, 83 VCC-IO, 84 PB4/LCD0_D8/I2S2_DOUT0/TWI1_SCK/I2S2_DIN1/LCD0_D20/UART5_TX/CAN1-TX0/PB_EINT4, 85 PB3/LCD0_D1/I2S2_DOUT1/TWI0_SCK/I2S2_DIN0/LCD0_D19/UART4_RX/CAN0-RX0/PB_EINT3, 86 PB2/LCD0_D0/I2S2_DOUT2/TWI0_SDA/I2S2_DIN2/LCD0_D18/UART4_TX/CAN0-TX0/PB_EINT2
part C pins: 52 PD22/SPDIF_OUT/IR_RX/UART1_RX/PWM7/PD_EINT22, 53 PD21/LCD0_VSYNC/TWI2_SDA/UART1_TX/PWM5/PD_EINT21, 54 PD20/LCD0_HSYNC/TWI2_SCK/DMIC_CLK/PWM4/PD_EINT20, 55 PD0/LCD0_D2/LVDS0_V0P/DSI_D0P/TWI0_SCK/PD_EINT0, 56 PD1/LCD0_D3/LVDS0_V0N/DSI_D0N/UART2_TX/PD_EINT1, 57 PD2/LCD0_D4/LVDS0_V1P/DSI_D1P/UART2_RX/PD_EINT2, 58 PD3/LCD0_D5/LVDS0_V1N/DSI_D1N/UART2_RTS/PD_EINT3, 59 PD4/LCD0_D6/LVDS0_V2P/DSI_CKP/UART2_CTS/PD_EINT4, 60 PD5/LCD0_D7/LVDS0_V2N/DSI_CKN/UART5_TX/PD_EINT5, 61 PD6/LCD0_D10/LVDS0_CKP/DSI_D2P/UART5_RX/PD_EINT6, 62 PD7/LCD0_D11/LVDS0_CKN/DSI_D2N/UART4_TX/PD_EINT7, 63 PD8/LCD0_D12/LVDS0_V3P/DSI_D3P/UART4_RX/PD_EINT8, 64 PD9/LCD0_D13/LVDS0_V3N/DSI_D3N/PWM6/PD_EINT9, 65 VCC-LVDS, 66 VCC-PD, 67 PD10/LCD0_D14/LVDS1_V0P/SPI1_CS/DBI_CSX/UART3_TX/PD_EINT10, 68 PD11/LCD0_D15/LVDS1_V0N/SPI1_CLK/DBI_SCLK/UART3_RX/PD_EINT11, 69 PD13/LCD0_D19/LVDS1_V1N/SPI1_MISO/DBI_SDI/DBI_TE/DBI_DCX/UART3_RTS/PD_EINT13, 70 PD12/LCD0_D18/LVDS1_V1P/SPI1_MOSI/DBI_SDO/TWI0_SDA/PD_EINT12, 71 PD14/LCD0_D20/LVDS1_V2P/SPI1_HOLD/DBI_DCX/DBI_WRX/UART3_CTS/PD_EINT14, 72 PD15/LCD0_D21/LVDS1_V2N/SPI1_WP/DBI_TE/IR_RX/PD_EINT15, 73 PD16/LCD0_D22/LVDS1_CKP/DMIC_DATA3/PWM0/PD_EINT16, 74 PD17/LCD0_D23/LVDS1_CKN/DMIC_DATA2/PWM1/PD_EINT17, 75 PD18/LCD0_CLK/LVDS1_V3P/DMIC_DATA1/PWM2/PD_EINT18, 76 PD19/LCD0_DE/LVDS1_V3N/DMIC_DATA0/PWM3/PD_EINT19
part D pins: 31 PE13/TWI2_SDA/PWM5/I2S0_DOUT0/I2S0_DIN1/DMIC_DATA3/RGMII_RXD2/PE_EINT13, 32 PE12/TWI2_SCK/NCSI0_FIELD/I2S0_DOUT2/I2S0_DIN2/RGMII_TXD3/PE_EINT12, 33 PE3/NCSI0_MCLK/UART2_RX/TWI0_SDA/CLK_FANOUT1/UART0_RX/RGMII_TXCK/RMII_TXCK/PE_EINT3, 34 VCC-PE, 35 PE2/NCSI0_PCLK/UART2_TX/TWI0_SCK/CLK_FANOUT0/UART0_TX/RGMII_RXD1/RMII_RXD1/PE_EINT2, 36 PE11/NCSI0_D7/UART1_RX/I2S0_DOUT3/I2S0_DIN3/JTAG_CK/RGMII_TXD2/PE_EINT11, 37 PE10/NCSI0_D6/UART1_TX/PWM4/IR_RX/JTAG_DO/EPHY_25M/PE_EINT10, 38 PE9/NCSI0_D5/UART1_CTS/PWM3/UART3_RX/JTAG_DI/MDIO/PE_EINT9, 39 PE8/NCSI0_D4/UART1_RTS/PWM2/UART3_TX/JTAG_MS/MDC/PE_EINT8, 40 PE7/NCSI0_D3/UART5_RX/TWI3_SDA/SPDIF_OUT/D_JTAG_CK/R_JTAG_CK/RGMII_CLKIN/RMII_RXER/PE_EINT7, 41 PE6/NCSI0_D2/UART5_TX/TWI3_SCK/SPDIF_IN/D_JTAG_DO/R_JTAG_DO/RGMII_TXCTRL/RMII_TXEN/PE_EINT6, 42 PE5/NCSI0_D1/UART4_RX/TWI2_SDA/LEDC_DO/D_JTAG_DI/R_JTAG_DI/RGMII_TXD1/RMII_TXD1/PE_EINT5, 43 PE4/NCSI0_D0/UART4_TX/TWI2_SCK/CLK_FANOUT2/D_JTAG_MS/R_JTAG_MS/RGMII_TXD0/RMII_TXD0/PE_EINT4, 44 PE0/NCSI0_HSYNC/UART2_RTS/TWI1_SCK/LCD0_HSYNC/RGMII_RXCTRL/RMII_CRS_DV/PE_EINT0, 45 PE1/NCSI0_VSYNC/UART2_CTS/TWI1_SDA/LCD0_VSYNC/RGMII_RXD0/RMII_RXD0/PE_EINT1
part E pins: 1 PG6/UART1_TX/TWI2_SCK/RGMII_TXD2/PWM1/PG_EINT6, 2 PG7/UART1_RX/TWI2_SDA/RGMII_TXD3/SPDIF_IN/PG_EINT7, 3 PG8/UART1_RTS/TWI1_SCK/RGMII_RXD2/UART3_TX/PG_EINT8, 4 PG9/UART1_CTS/TWI1_SDA/RGMII_RXD3/UART3_RX/PG_EINT9, 5 PG10/PWM3/TWI3_SCK/RGMII_RXCK/CLK_FANOUT0/IR_RX/PG_EINT10, 6 PG11/I2S1_MCLK/TWI3_SDA/EPHY_25M/CLK_FANOUT1/TCON_TRIG/PG_EINT11, 118 PG1/SDC1_CMD/UART3_RX/RGMII_RXD0/RMII_RXD0/PWM6/PG_EINT1, 119 PG2/SDC1_D0/UART3_RTS/RGMII_RXD1/RMII_RXD1/UART4_TX/PG_EINT2, 120 PG0/SDC1_CLK/UART3_TX/RGMII_RXCTRL/RMII_CRS_DV/PWM7/PG_EINT0, 121 PG3/SDC1_D1/UART3_CTS/RGMII_TXCK/RMII_TXCK/UART4_RX/PG_EINT3, 122 PG5/SDC1_D3/UART5_RX/RGMII_TXD1/RMII_TXD1/PWM4/PG_EINT5, 123 PG4/SDC1_D2/UART5_TX/RGMII_TXD0/RMII_TXD0/PWM5/PG_EINT4, 124 PG12/I2S1_LRCK/TWI0_SCK/RGMII_TXCTRL/RMII_TXEN/CLK_FANOUT2/PWM0/UART1_TX/PG_EINT12, 125 PG13/I2S1_BCLK/TWI0_SDA/RGMII_CLKIN/RMII_RXER/PWM2/LEDC_DO/UART1_RX/PG_EINT13, 126 PG14/I2S1_DIN0/TWI2_SCK/MDC/I2S1_DOUT1/SPI0_WP/UART1_RTS/PG_EINT14, 127 PG15/I2S1_DOUT0/TWI2_SDA/MDIO/I2S1_DIN1/SPI0_HOLD/UART1_CTS/PG_EINT15, 128 VCC-PG
part A text: Analog&Sys
part B text: PB; PC; PF
part C text: PD
part D text: PE
part E text: PG

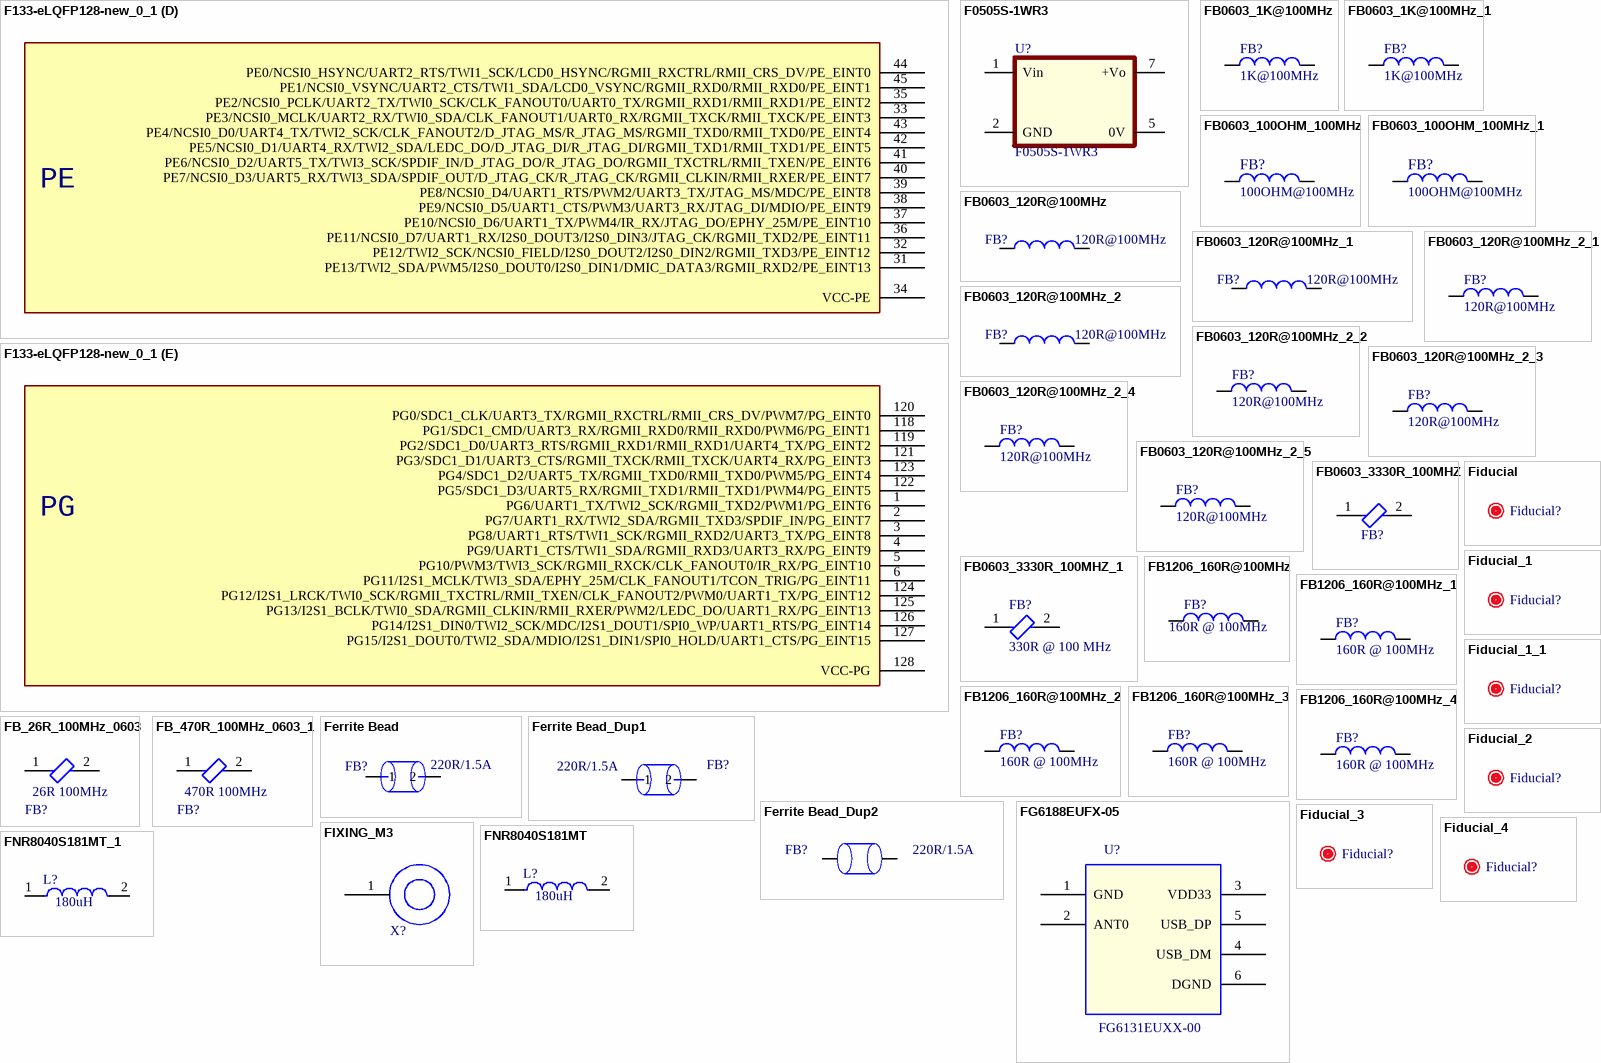
[diagram p24: symbols F133-eLQFP128-new_0_1 to FNR8040S181MT_1]

## F133-eLQFP128-new_0_1
designator U?, comment F133-eLQFP128-new_0  (value not drawn)
Manufacturer Part Number: T113-S3; SWAP_INFO: (S1+S2+S3+S4+S5); SPLIT_INST: TRUE; Altium-Right: 150; Altium-Bottom: 360; Altium-Right1: 570; Altium-Bottom1: 270; Altium-Bottom2: 280; Altium-Bottom3: 180; Altium-Bottom4: 200; Altium-Right2: 570; Altium-Right3: 570; Altium-Right4: 570
footprint QFP129P40B1600_1600H160
part A pins: 20 VCC-PLL, 21 REFCLK-OUT, 22 DXOUT, 23 DXIN, 24 X32KOUT, 25 X32KIN, 26 VCC-RTC, 27 RESET, 28 LDOA-OUT, 29 LDO-IN, 30 LDOB-OUT, 46 VDD-SYS0, 47 DZQ, 48 VCC-DRAM0, 49 VCC-DRAM1, 50 VDD18-DRAM, 51 VDD-SYS1, 77 VCC-TVOUT, 78 TVOUT0, 81 VDD-SYS2, 87 MICIN3P, 88 MICIN3N, 89 AVCC, 90 VRA2, 91 AGND, 92 VRA1, 93 FMINR, 94 FMINL, 95 LINEINR, 96 LINEINL, 97 HPVCC, 98 HPOUTR, 99 HPOUTL, 100 HPOUTFB, 101 GPADC0, 102 TP-X1, 103 TP-X2, 104 TP-Y1, 105 TP-Y2, 106 NC0, 107 VCC-TVIN, 108 TVIN0, 109 TVIN1, 110 TVIN-VRP, 111 TVIN-VRN, 112 USB1-DP, 113 USB1-DM, 114 USB0-DM, 115 USB0-DP, 116 VDD-CPU0, 117 VDD-CPU1, 129 EPAD
part B pins: 7 PF0/SDC0_D1/JTAG_MS/R_JTAG_MS/I2S2_DOUT1/I2S2_DIN0/PF_EINT0, 8 PF1/SDC0_D0/JTAG_DI/R_JTAG_DI/I2S2_DOUT0/I2S2_DIN1/PF_EINT1, 9 PF2/SDC0_CLK/UART0_TX/TWI0_SCK/LEDC_DO/SPDIF_IN/PF_EINT2, 10 PF3/SDC0_CMD/JTAG_DO/R_JTAG_DO/I2S2_BCLK/PF_EINT3, 11 PF4/SDC0_D3/UART0_RX/TWI0_SDA/PWM6/IR_TX/PF_EINT4, 12 PF5/SDC0_D2/JTAG_CK/R_JTAG_CK/I2S2_LRCK/PF_EINT5, 13 PF6/SPDIF_OUT/IR_RX/I2S2_MCLK/PWM5/PF_EINT6, 14 PC7/SPI0_HOLD/SDC2_D3/UART3_RX/TWI3_SDA/TCON_TRIG/PC_EINT7, 15 PC6/SPI0_WP/SDC2_D0/UART3_TX/TWI3_SCK/DBG_CLK/PC_EINT6, 16 PC5/SPI0_MISO/SDC2_D1/BOOT_SEL1/PC_EINT5, 17 PC4/SPI0_MOSI/SDC2_D2/BOOT_SEL0/PC_EINT4, 18 PC3/SPI0_CS0/SDC2_CMD/PC_EINT3, 19 PC2/SPI0_CLK/SDC2_CLK/PC_EINT2, 79 PB7/LCD0_D17/I2S2_MCLK/TWI3_SDA/IR_RX/LCD0_D23/UART3_RX/CPUBIST1/PB_EINT7, 80 PB6/LCD0_D16/I2S2_LRCK/TWI3_SCK/PWM1/LCD0_D22/UART3_TX/CPUBIST0/PB_EINT6, 82 PB5/LCD0_D9/I2S2_BCLK/TWI1_SDA/PWM0/LCD0_D21/UART5_RX/CAN1-RX0/PB_EINT5, 83 VCC-IO, 84 PB4/LCD0_D8/I2S2_DOUT0/TWI1_SCK/I2S2_DIN1/LCD0_D20/UART5_TX/CAN1-TX0/PB_EINT4, 85 PB3/LCD0_D1/I2S2_DOUT1/TWI0_SCK/I2S2_DIN0/LCD0_D19/UART4_RX/CAN0-RX0/PB_EINT3, 86 PB2/LCD0_D0/I2S2_DOUT2/TWI0_SDA/I2S2_DIN2/LCD0_D18/UART4_TX/CAN0-TX0/PB_EINT2
part C pins: 52 PD22/SPDIF_OUT/IR_RX/UART1_RX/PWM7/PD_EINT22, 53 PD21/LCD0_VSYNC/TWI2_SDA/UART1_TX/PWM5/PD_EINT21, 54 PD20/LCD0_HSYNC/TWI2_SCK/DMIC_CLK/PWM4/PD_EINT20, 55 PD0/LCD0_D2/LVDS0_V0P/DSI_D0P/TWI0_SCK/PD_EINT0, 56 PD1/LCD0_D3/LVDS0_V0N/DSI_D0N/UART2_TX/PD_EINT1, 57 PD2/LCD0_D4/LVDS0_V1P/DSI_D1P/UART2_RX/PD_EINT2, 58 PD3/LCD0_D5/LVDS0_V1N/DSI_D1N/UART2_RTS/PD_EINT3, 59 PD4/LCD0_D6/LVDS0_V2P/DSI_CKP/UART2_CTS/PD_EINT4, 60 PD5/LCD0_D7/LVDS0_V2N/DSI_CKN/UART5_TX/PD_EINT5, 61 PD6/LCD0_D10/LVDS0_CKP/DSI_D2P/UART5_RX/PD_EINT6, 62 PD7/LCD0_D11/LVDS0_CKN/DSI_D2N/UART4_TX/PD_EINT7, 63 PD8/LCD0_D12/LVDS0_V3P/DSI_D3P/UART4_RX/PD_EINT8, 64 PD9/LCD0_D13/LVDS0_V3N/DSI_D3N/PWM6/PD_EINT9, 65 VCC-LVDS, 66 VCC-PD, 67 PD10/LCD0_D14/LVDS1_V0P/SPI1_CS/DBI_CSX/UART3_TX/PD_EINT10, 68 PD11/LCD0_D15/LVDS1_V0N/SPI1_CLK/DBI_SCLK/UART3_RX/PD_EINT11, 69 PD13/LCD0_D19/LVDS1_V1N/SPI1_MISO/DBI_SDI/DBI_TE/DBI_DCX/UART3_RTS/PD_EINT13, 70 PD12/LCD0_D18/LVDS1_V1P/SPI1_MOSI/DBI_SDO/TWI0_SDA/PD_EINT12, 71 PD14/LCD0_D20/LVDS1_V2P/SPI1_HOLD/DBI_DCX/DBI_WRX/UART3_CTS/PD_EINT14, 72 PD15/LCD0_D21/LVDS1_V2N/SPI1_WP/DBI_TE/IR_RX/PD_EINT15, 73 PD16/LCD0_D22/LVDS1_CKP/DMIC_DATA3/PWM0/PD_EINT16, 74 PD17/LCD0_D23/LVDS1_CKN/DMIC_DATA2/PWM1/PD_EINT17, 75 PD18/LCD0_CLK/LVDS1_V3P/DMIC_DATA1/PWM2/PD_EINT18, 76 PD19/LCD0_DE/LVDS1_V3N/DMIC_DATA0/PWM3/PD_EINT19
part D pins: 31 PE13/TWI2_SDA/PWM5/I2S0_DOUT0/I2S0_DIN1/DMIC_DATA3/RGMII_RXD2/PE_EINT13, 32 PE12/TWI2_SCK/NCSI0_FIELD/I2S0_DOUT2/I2S0_DIN2/RGMII_TXD3/PE_EINT12, 33 PE3/NCSI0_MCLK/UART2_RX/TWI0_SDA/CLK_FANOUT1/UART0_RX/RGMII_TXCK/RMII_TXCK/PE_EINT3, 34 VCC-PE, 35 PE2/NCSI0_PCLK/UART2_TX/TWI0_SCK/CLK_FANOUT0/UART0_TX/RGMII_RXD1/RMII_RXD1/PE_EINT2, 36 PE11/NCSI0_D7/UART1_RX/I2S0_DOUT3/I2S0_DIN3/JTAG_CK/RGMII_TXD2/PE_EINT11, 37 PE10/NCSI0_D6/UART1_TX/PWM4/IR_RX/JTAG_DO/EPHY_25M/PE_EINT10, 38 PE9/NCSI0_D5/UART1_CTS/PWM3/UART3_RX/JTAG_DI/MDIO/PE_EINT9, 39 PE8/NCSI0_D4/UART1_RTS/PWM2/UART3_TX/JTAG_MS/MDC/PE_EINT8, 40 PE7/NCSI0_D3/UART5_RX/TWI3_SDA/SPDIF_OUT/D_JTAG_CK/R_JTAG_CK/RGMII_CLKIN/RMII_RXER/PE_EINT7, 41 PE6/NCSI0_D2/UART5_TX/TWI3_SCK/SPDIF_IN/D_JTAG_DO/R_JTAG_DO/RGMII_TXCTRL/RMII_TXEN/PE_EINT6, 42 PE5/NCSI0_D1/UART4_RX/TWI2_SDA/LEDC_DO/D_JTAG_DI/R_JTAG_DI/RGMII_TXD1/RMII_TXD1/PE_EINT5, 43 PE4/NCSI0_D0/UART4_TX/TWI2_SCK/CLK_FANOUT2/D_JTAG_MS/R_JTAG_MS/RGMII_TXD0/RMII_TXD0/PE_EINT4, 44 PE0/NCSI0_HSYNC/UART2_RTS/TWI1_SCK/LCD0_HSYNC/RGMII_RXCTRL/RMII_CRS_DV/PE_EINT0, 45 PE1/NCSI0_VSYNC/UART2_CTS/TWI1_SDA/LCD0_VSYNC/RGMII_RXD0/RMII_RXD0/PE_EINT1
part E pins: 1 PG6/UART1_TX/TWI2_SCK/RGMII_TXD2/PWM1/PG_EINT6, 2 PG7/UART1_RX/TWI2_SDA/RGMII_TXD3/SPDIF_IN/PG_EINT7, 3 PG8/UART1_RTS/TWI1_SCK/RGMII_RXD2/UART3_TX/PG_EINT8, 4 PG9/UART1_CTS/TWI1_SDA/RGMII_RXD3/UART3_RX/PG_EINT9, 5 PG10/PWM3/TWI3_SCK/RGMII_RXCK/CLK_FANOUT0/IR_RX/PG_EINT10, 6 PG11/I2S1_MCLK/TWI3_SDA/EPHY_25M/CLK_FANOUT1/TCON_TRIG/PG_EINT11, 118 PG1/SDC1_CMD/UART3_RX/RGMII_RXD0/RMII_RXD0/PWM6/PG_EINT1, 119 PG2/SDC1_D0/UART3_RTS/RGMII_RXD1/RMII_RXD1/UART4_TX/PG_EINT2, 120 PG0/SDC1_CLK/UART3_TX/RGMII_RXCTRL/RMII_CRS_DV/PWM7/PG_EINT0, 121 PG3/SDC1_D1/UART3_CTS/RGMII_TXCK/RMII_TXCK/UART4_RX/PG_EINT3, 122 PG5/SDC1_D3/UART5_RX/RGMII_TXD1/RMII_TXD1/PWM4/PG_EINT5, 123 PG4/SDC1_D2/UART5_TX/RGMII_TXD0/RMII_TXD0/PWM5/PG_EINT4, 124 PG12/I2S1_LRCK/TWI0_SCK/RGMII_TXCTRL/RMII_TXEN/CLK_FANOUT2/PWM0/UART1_TX/PG_EINT12, 125 PG13/I2S1_BCLK/TWI0_SDA/RGMII_CLKIN/RMII_RXER/PWM2/LEDC_DO/UART1_RX/PG_EINT13, 126 PG14/I2S1_DIN0/TWI2_SCK/MDC/I2S1_DOUT1/SPI0_WP/UART1_RTS/PG_EINT14, 127 PG15/I2S1_DOUT0/TWI2_SDA/MDIO/I2S1_DIN1/SPI0_HOLD/UART1_CTS/PG_EINT15, 128 VCC-PG
part A text: Analog&Sys
part B text: PB; PC; PF
part C text: PD
part D text: PE
part E text: PG

## F0505S-1WR3
designator U?
Manufacturer: MORNSUN; Supplier 1: Digi-Key; Manufacturer Part Number: F0505S-1WR3; RoHS: Yes; Stock 1: 3199; Pricing 1: 1=1,47000, 5=1,45200, 10=1,44000, 25=1,39520, 50=1,35000, 100=1,31630, 250=1,27124, 500=1,18126 (USD); Supplier Part Number 1: 2725-F0505S-1WR3-ND
footprint F0505S-1WR3
pins: 1 Vin (power), 2 GND (power), 5 0V (power), 7 +Vo (power)

## FB0603_1K@100MHz
designator FB?, comment value 1K@100MHz  (hidden comment: FERRITE BEAD 1K ohm 0603 1LN)
120 Ohms @ 100 MHz 1 Power Line Ferrite Bead 0603 (1608 Metric) 3A 30mOhm; Manufacturer Part Number: BLM18KG121TH1D; Order Code: Digi:490-13261-2-ND; LCSC Part Number: C437404
footprint FB0603 (0.063" L x 0.031" W (1.60mm x 0.80mm))
pins: 1, 2

## FB0603_1K@100MHz_1
designator FB?, comment value 1K@100MHz  (hidden comment: FERRITE BEAD 1K ohm 0603 1LN)
120 Ohms @ 100 MHz 1 Power Line Ferrite Bead 0603 (1608 Metric) 3A 30mOhm; Manufacturer Part Number: BLM18KG121TH1D; Order Code: Digi:490-13261-2-ND; LCSC Part Number: C437404
footprint FB0603 (0.063" L x 0.031" W (1.60mm x 0.80mm))
pins: 1, 2

## FB0603_100OHM_100MHz
designator FB?, comment 100OHM@100MHz
100 Ohms @ 100 MHz 1 Power Line Ferrite Bead 0603 (1608 Metric) 2A 40mOhm; Manufacturer: TDK; Manufacturer Part Number: MPZ1608Y101BTA00; Tolerance: 25%; Impedance: 100R; DC Resistance (DCR): 40mR; ComponentLink1URL: https://chn-vm-apps.microchip.com/mchprepo/parts/Datasheets/beads_commercial_power_mpz_en.pdf; ComponentLink1Description: Datasheet; Supplier 1: Digi-Key; Supplier Part Number 1: 445-2984-1-ND; RoHS: Yes; Category: Ferrite Beads and Chips; Stock 1: 551; Pricing 1: 1=0,10000, 10=0,07200, 25=0,06480, 50=0,05840, 100=0,04290, 250=0,03120, 500=0,02860, 1000=0,02470 (USD); Mount: Surface Mount; Case/Package: 0603; Case Code (Metric): 1608; Case Code (Imperial): 0603; Core Material: Ferrite; Packaging: Tape and Reel; Package Quantity: 4000; Max DC Current: 2A; Current Rating: 2A; Series: MPZ; Length: 0.063inch; Width: 0.031inch; Height: 0.037inch; RoHS Compliant: Yes; REACH SVHC: No SVHC; ComponentLink2URL: https://datasheet.ciiva.com/46634/beads-commercial-power-mpz-en-46634677.pdf?src-supplier=Digi-Key; ComponentLink2Description: https://datasheet.ciiva.com/46634/beads-commercial-power-mpz-en-46634677.pdf?src-supplier=Digi-Key; ComponentLink3URL: https://datasheet.ciiva.com/48682/beads-commercial-power-mpz-en-48682501.pdf?src-supplier=Avnet; ComponentLink3Description: https://datasheet.ciiva.com/48682/beads-commercial-power-mpz-en-48682501.pdf?src-supplier=Avnet; ComponentLink4URL: https://datasheet.ciiva.com/46634/beads-commercial-power-mpz-en-46634684.pdf?src-supplier=Digi-Key; ComponentLink4Description: https://datasheet.ciiva.com/46634/beads-commercial-power-mpz-en-46634684.pdf?src-supplier=Digi-Key; ComponentLink5URL: https://datasheet.ciiva.com/46634/beads-commercial-power-mpz-en-46634621.pdf?src-supplier=Digi-Key; ComponentLink5Description: https://datasheet.ciiva.com/46634/beads-commercial-power-mpz-en-46634621.pdf?src-supplier=Digi-Key; Parameter 1: *; LCSC Manufacturer Part Number: MPZ1608Y101BTA00; LCSC Part Number: C501996
footprint FB 0603(1608)
pins: 1, 2
2 alternate drawings of the same symbol

## FB0603_100OHM_100MHz_1
designator FB?, comment 100OHM@100MHz
100 Ohms @ 100 MHz 1 Power Line Ferrite Bead 0603 (1608 Metric) 2A 40mOhm; Manufacturer: TDK; Manufacturer Part Number: MPZ1608Y101BTA00; Tolerance: 25%; Impedance: 100R; DC Resistance (DCR): 40mR; ComponentLink1URL: https://chn-vm-apps.microchip.com/mchprepo/parts/Datasheets/beads_commercial_power_mpz_en.pdf; ComponentLink1Description: Datasheet; Supplier 1: Digi-Key; Supplier Part Number 1: 445-2984-1-ND; RoHS: Yes; Category: Ferrite Beads and Chips; Stock 1: 551; Pricing 1: 1=0,10000, 10=0,07200, 25=0,06480, 50=0,05840, 100=0,04290, 250=0,03120, 500=0,02860, 1000=0,02470 (USD); Mount: Surface Mount; Case/Package: 0603; Case Code (Metric): 1608; Case Code (Imperial): 0603; Core Material: Ferrite; Packaging: Tape and Reel; Package Quantity: 4000; Max DC Current: 2A; Current Rating: 2A; Series: MPZ; Length: 0.063inch; Width: 0.031inch; Height: 0.037inch; RoHS Compliant: Yes; REACH SVHC: No SVHC; ComponentLink2URL: https://datasheet.ciiva.com/46634/beads-commercial-power-mpz-en-46634677.pdf?src-supplier=Digi-Key; ComponentLink2Description: https://datasheet.ciiva.com/46634/beads-commercial-power-mpz-en-46634677.pdf?src-supplier=Digi-Key; ComponentLink3URL: https://datasheet.ciiva.com/48682/beads-commercial-power-mpz-en-48682501.pdf?src-supplier=Avnet; ComponentLink3Description: https://datasheet.ciiva.com/48682/beads-commercial-power-mpz-en-48682501.pdf?src-supplier=Avnet; ComponentLink4URL: https://datasheet.ciiva.com/46634/beads-commercial-power-mpz-en-46634684.pdf?src-supplier=Digi-Key; ComponentLink4Description: https://datasheet.ciiva.com/46634/beads-commercial-power-mpz-en-46634684.pdf?src-supplier=Digi-Key; ComponentLink5URL: https://datasheet.ciiva.com/46634/beads-commercial-power-mpz-en-46634621.pdf?src-supplier=Digi-Key; ComponentLink5Description: https://datasheet.ciiva.com/46634/beads-commercial-power-mpz-en-46634621.pdf?src-supplier=Digi-Key; Parameter 1: *; LCSC Manufacturer Part Number: MPZ1608Y101BTA00; LCSC Part Number: C501996
footprint FB 0603(1608)
pins: 1, 2
2 alternate drawings of the same symbol

## FB0603_120R@100MHz
designator FB?, comment value 120R@100MHz  (hidden comment: FERRITE BEAD 120 OHM 0603 1LN)
120 Ohms @ 100 MHz 1 Power Line Ferrite Bead 0603 (1608 Metric) 3A 30mOhm; Manufacturer Part Number: BLM18KG121TH1D; Order Code: Digi:490-13261-2-ND; LCSC Manufacturer Part Number: BLM18KG121TH1D; LCSC Part Number: C437404
footprint FB0603
pins: 1, 2

## FB0603_120R@100MHz_1
designator FB?, comment value 120R@100MHz  (hidden comment: FERRITE BEAD 120 OHM 0603 1LN)
120 Ohms @ 100 MHz 1 Power Line Ferrite Bead 0603 (1608 Metric) 3A 30mOhm; Manufacturer Part Number: BLM18KG121TH1D; Order Code: Digi:490-13261-2-ND; LCSC Manufacturer Part Number: BLM18KG121TH1D; LCSC Part Number: C437404
footprint FB 0603(1608)
pins: 1, 2

## FB0603_120R@100MHz_2
designator FB?, comment value 120R@100MHz  (hidden comment: FERRITE BEAD 120 OHM 0603 1LN)
120 Ohms @ 100 MHz 1 Power Line Ferrite Bead 0603 (1608 Metric) 3A 30mOhm; Manufacturer Part Number: BLM18KG121TH1D; Order Code: Digi:490-13261-2-ND; LCSC Manufacturer Part Number: BLM18KG121TH1D; LCSC Part Number: C437404
footprint FB 0603(1608)
pins: 1, 2

## FB0603_120R@100MHz_2_1
designator FB?, comment value 120R@100MHz  (hidden comment: FERRITE BEAD 120 OHM 0603 1LN)
120 Ohms @ 100 MHz 1 Power Line Ferrite Bead 0603 (1608 Metric) 3A 30mOhm; Manufacturer Part Number: BLM18KG121TH1D; Order Code: Digi:490-13261-2-ND; LCSC Manufacturer Part Number: BLM18KG121TH1D; LCSC Part Number: C437404
footprint FB0603
pins: 1, 2

## FB0603_120R@100MHz_2_2
designator FB?, comment value 120R@100MHz  (hidden comment: FERRITE BEAD 120 OHM 0603 1LN)
120 Ohms @ 100 MHz 1 Power Line Ferrite Bead 0603 (1608 Metric) 3A 30mOhm; Manufacturer Part Number: BLM18KG121TH1D; Order Code: Digi:490-13261-2-ND; LCSC Manufacturer Part Number: BLM18KG121TH1D; LCSC Part Number: C437404
footprint FB0603
pins: 1, 2

## FB0603_120R@100MHz_2_3
designator FB?, comment value 120R@100MHz  (hidden comment: FERRITE BEAD 120 OHM 0603 1LN)
120 Ohms @ 100 MHz 1 Power Line Ferrite Bead 0603 (1608 Metric) 3A 30mOhm; Manufacturer Part Number: BLM18KG121TH1D; Order Code: Digi:490-13261-2-ND; LCSC Manufacturer Part Number: BLM18KG121TH1D; LCSC Part Number: C437404
footprint FB0603
pins: 1, 2

## FB0603_120R@100MHz_2_4
designator FB?, comment value 120R@100MHz  (hidden comment: FERRITE BEAD 120 OHM 0603 1LN)
120 Ohms @ 100 MHz 1 Power Line Ferrite Bead 0603 (1608 Metric) 3A 30mOhm; Manufacturer Part Number: BLM18KG121TH1D; Order Code: Digi:490-13261-2-ND; LCSC Manufacturer Part Number: BLM18KG121TH1D; LCSC Part Number: C437404
footprint FB0603
pins: 1, 2

## FB0603_120R@100MHz_2_5
designator FB?, comment value 120R@100MHz  (hidden comment: FERRITE BEAD 120 OHM 0603 1LN)
120 Ohms @ 100 MHz 1 Power Line Ferrite Bead 0603 (1608 Metric) 3A 30mOhm; Manufacturer Part Number: BLM18KG121TH1D; Order Code: Digi:490-13261-2-ND; LCSC Manufacturer Part Number: BLM18KG121TH1D; LCSC Part Number: C437404
footprint FB0603
pins: 1, 2

## FB0603_3330R_100MHZ
designator FB?  (value not drawn)
330 Ohms @ 100 MHz 1 Power Line Ferrite Bead 0603 (1608 Metric) 1.5A 70mOhm; Manufacturer Part Number: BLM18SG331TN1D; Manufacturer Name: Murata Electronics; Impedance @ Frequency: 330 Ohms @ 100 MHz; Current Rating (Max): 1.5A
footprint FB_0603
pins: 1, 2

## FB0603_3330R_100MHZ_1
designator FB?, comment 330R @ 100 MHz
330 Ohms @ 100 MHz 1 Power Line Ferrite Bead 0603 (1608 Metric) 1.5A 70mOhm; Manufacturer Part Number: BLM18SG331TN1D; Manufacturer Name: Murata Electronics; Impedance @ Frequency: 330 Ohms @ 100 MHz; Current Rating (Max): 1.5A
footprint FB_0603
pins: 1, 2

## FB1206_160R@100MHz
designator FB?, comment 160R @ 100MHz
FERRITE BEAD 160 OHM 1206 1LN; Manufacturer Part Number: HI1206T161R-10; Order Code: DIGI : 240-2411-1-ND; Value: 160R @ 100MHz
footprint FB1210
pins: 1, 2

## FB1206_160R@100MHz_1
designator FB?, comment 160R @ 100MHz
FERRITE BEAD 160 OHM 1206 1LN; P/N: HI1206T161R-10; Order Code: Win Source : 103255-HI1206T161R-10; Value: 160R @ 100MHz
footprint FB1210 (0.126" L x 0.098" W (3.20mm x 2.50mm))
footprint BEADC3216X180N
pins: 1, 2

## FB1206_160R@100MHz_2
designator FB?, comment 160R @ 100MHz
FERRITE BEAD 160 OHM 1206 1LN; P/N: HI1206T161R-10; Order Code: Win Source : 103255-HI1206T161R-10; Value: 160R @ 100MHz
footprint FB1210 (0.126" L x 0.098" W (3.20mm x 2.50mm))
footprint BEADC3216X180N
pins: 1, 2

## FB1206_160R@100MHz_3
designator FB?, comment 160R @ 100MHz
FERRITE BEAD 160 OHM 1206 1LN; P/N: HI1206T161R-10; Order Code: Win Source : 103255-HI1206T161R-10; Value: 160R @ 100MHz
footprint FB1210 (0.126" L x 0.098" W (3.20mm x 2.50mm))
footprint BEADC3216X180N
pins: 1, 2

## FB1206_160R@100MHz_4
designator FB?, comment 160R @ 100MHz
FERRITE BEAD 160 OHM 1206 1LN; P/N: HI1206T161R-10; Order Code: Win Source : 103255-HI1206T161R-10; Value: 160R @ 100MHz
footprint FB1210 (0.126" L x 0.098" W (3.20mm x 2.50mm))
footprint BEADC3216X180N
pins: 1, 2

## FB_26R_100MHz_0603
designator FB?, comment value 26R 100MHz  (hidden comment: FERRITE BEAD 26 OHM 0603 1LN)
26 Ohms @ 100 MHz 1 Power Line Ferrite Bead 0603 (1608 Metric) 6A 7mOhm; Manufacturer Part Number: BLM18KG260TN1D; Order Code: DIGI: 490-5252-2-ND
footprint Murata_BLM18-0_15-t0_6-d3_3_IPC_A
footprint Murata_BLM18-0_15-t0_6-d3_3_IPC_B
footprint Murata_BLM18-0_15-t0_6-d3_3_IPC_C
pins: 1, 2

## FB_470R_100MHz_0603_1
designator FB?, comment value 470R 100MHz  (hidden comment: FERRITE BEAD 470 OHM 0603 1LN)
470 Ohms @ 100 MHz 1 Power Line Ferrite Bead 0603 (1608 Metric) 1.5A 130mOhm; Manufacturer Part Number: BLM18KG471SH1D; Order Code: DIGI: 490-5252-2-ND
footprint Murata_BLM18-0_15-t0_6-d3_3_IPC_A
footprint Murata_BLM18-0_15-t0_6-d3_3_IPC_B
footprint Murata_BLM18-0_15-t0_6-d3_3_IPC_C
pins: 1, 2

## Ferrite Bead
designator FB?, comment 220R/1.5A
Ferrite Bead,220R@100Mhz,1.5A,+/-25%,SMD,0603,Fenghua; Manufacturer P/N: CBM160808U221T; Myir P/N: 20601.80007; Reserve Value: 220R; PCB Footprint: FB0603; Part Type: Ferrite Bead; Manufacturer: Fenghua; Datasheet: CBM160808U221T.pdf
footprint FB0603
pins: 1, 2

## Ferrite Bead_Dup1
designator FB?, comment 220R/1.5A
Ferrite Bead,220R@100Mhz,1.5A,+/-25%,SMD,0603,Fenghua; Manufacturer P/N: CBM160808U221T; Myir P/N: 20601.80007; Reserve Value: 220R; PCB Footprint: FB0603; Part Type: Ferrite Bead; Manufacturer: Fenghua; Datasheet: CBM160808U221T.pdf
footprint FB0603
pins: 1, 2

## Ferrite Bead_Dup2
designator FB?, comment 220R/1.5A
Ferrite Bead,220R@100Mhz,1.5A,+/-25%,SMD,0603,Fenghua; Manufacturer P/N: CBM160808U221T; Reserve Value: 220R; Myir P/N: 20601.80007; PCB Footprint: FB0603; Datasheet: CBM160808U221T.pdf; Manufacturer: Fenghua; Part Type: Ferrite Bead
footprint FB0603
pins: 1, 2

## FG6188EUFX-05
designator U?, comment FG6131EUXX-00
USB WIFI module,Size 12.2*13*0.6mm,SMD,0¡ãC to 70¡ãC,Fn-link; PCB Footprint: modile-FG6188EUFX-05; Myir P/N: 20201.00010; Reserve Value: FG6188EUFX-05; Part Type: WIFI Module; Manufacturer: Fn-link; Manufacturer P/N: FG6131EUXX-00; Datasheet: FG6131EUXX-00.pdf
footprint modile-FG6188EUFX-05
pins: 1 GND (power), 2 ANT0, 3 VDD33 (power), 4 USB_DM, 5 USB_DP, 6 DGND (power)

## Fiducial
designator Fiducial?  (value not drawn)
footprint FIDUCIAL_40_80

## Fiducial_1
designator Fiducial?  (value not drawn)
footprint FIDUCIAL_40_80

## Fiducial_1_1
designator Fiducial?  (value not drawn)
footprint FIDUCIAL_40_80

## Fiducial_2
designator Fiducial?  (value not drawn)
footprint FIDUCIAL_40_80

## Fiducial_3
designator Fiducial?  (value not drawn)
footprint FIDUCIAL_40_80

## Fiducial_4
designator Fiducial?  (value not drawn)
footprint FIDUCIAL_40_80

## FIXING_M3
designator X?, comment M3  (value not drawn)  (no BOM)
FIXING HOLE M3; Value: M3
footprint FIXING_M3 (FIXING HOLE M3)
pins: 1

## FNR8040S181MT
designator L?, comment value 180uH  (hidden comment: 830mA 180uH ±20% SMD,8x8mm Power Inductors ROHS)
Manufacturer Part Number: FNR8040S181MT; Order Code: LCSC: C168147; LCSC Manufacturer Part Number: FNR8040S181MT; LCSC Part Number: C168147
footprint IND-SMD_L8.0-W8.0
pins: 1, 2

## FNR8040S181MT_1
designator L?, comment value 180uH  (hidden comment: 830mA 180uH ±20% SMD,8x8mm Power Inductors ROHS)
Manufacturer Part Number: FNR8040S181MT; Order Code: LCSC: C168147; LCSC Manufacturer Part Number: FNR8040S181MT; LCSC Part Number: C168147
footprint IND-SMD_L8.0-W8.0
pins: 1, 2

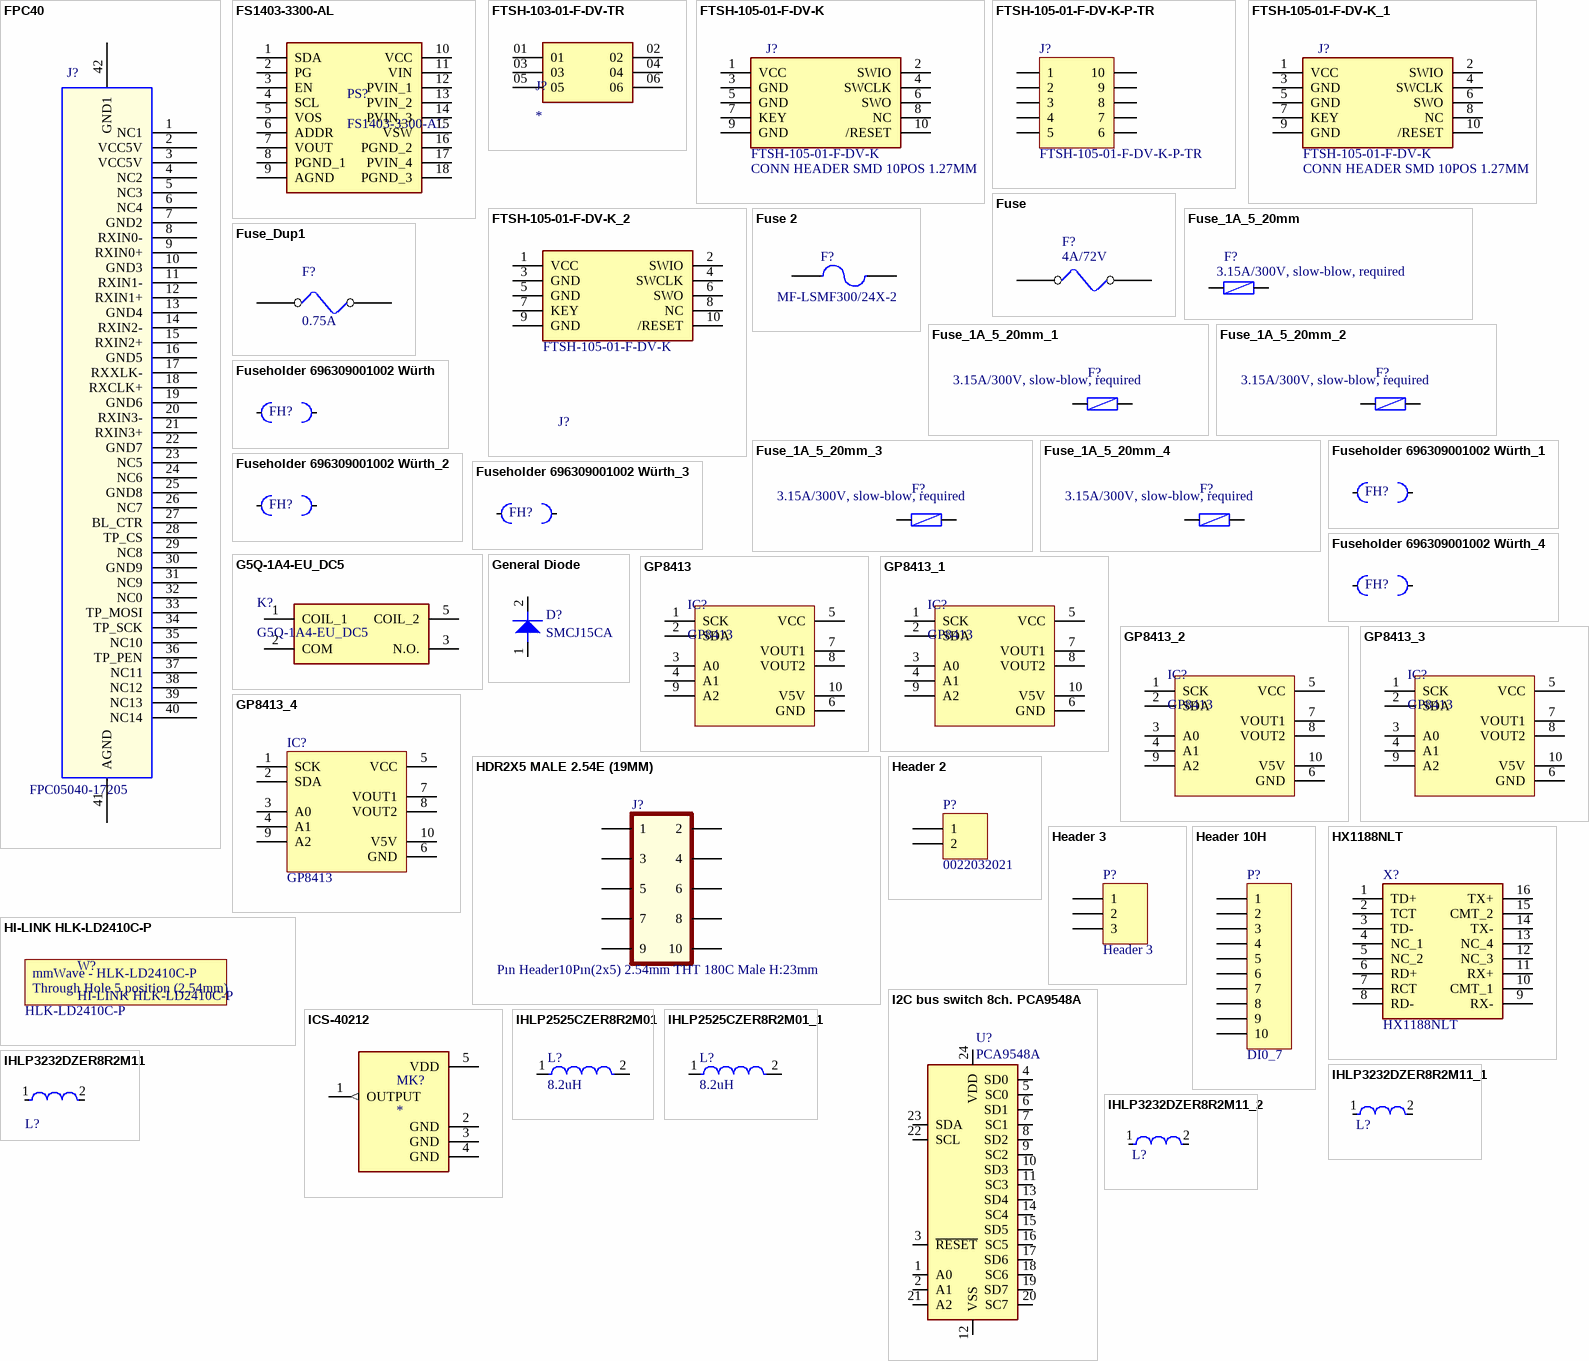
[diagram p25: symbols FPC40 to IHLP3232DZER8R2M11_2]